# Altium integrated library Xilinx Spartan-IIE.IntLib: 136 symbols (part 3 of 23)
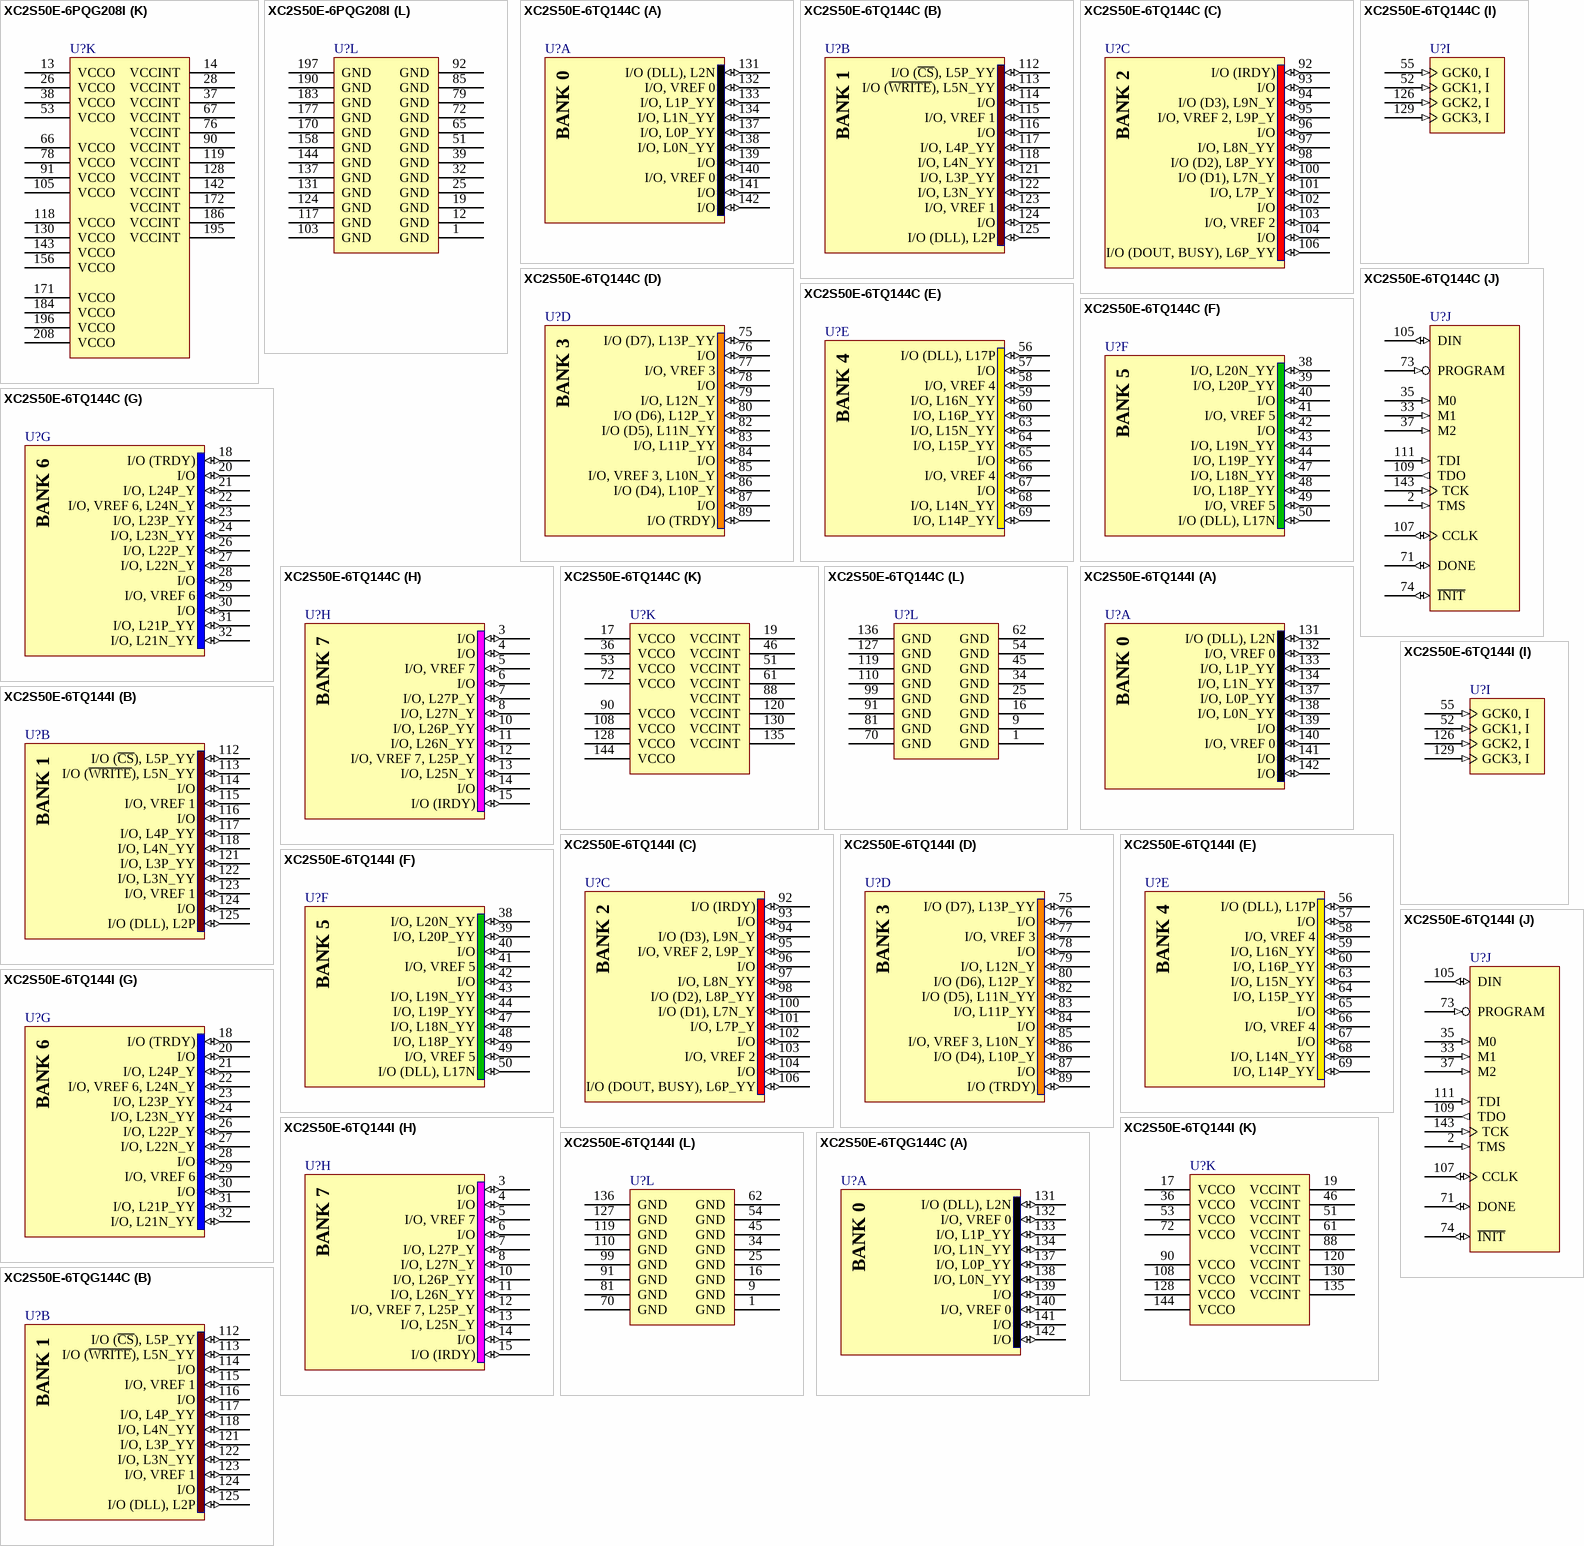
[diagram p130: symbols XC2S50E-6PQG208I to XC2S50E-6TQG144C]

## XC2S50E-6PQG208I
designator U?
Spartan-IIE 1.8V FPGA, 146 User I/Os, 208-Pin PQFP, Standard Performance, Industrial Grade, Pb-Free; DatasheetVersion: ver2.3, Jun-2008; PackageVersion: ver1.2, Jun-2004; PackageReference: PQG208; PackageDescription: 208-Pin Plastic Quad Flat Pack (PQG208) - Pb-Free; Code_JEDEC: MS-029-FA-1; ComponentLink1Description: Manufacturer URL; ComponentLink1URL: http://www.xilinx.com/; ComponentLink2Description: Spartan-IIE Datasheet; ComponentLink2URL: http://www.xilinx.com/support/documentation/data_sheets/ds077.pdf; ComponentLink3Description: PQG208 Package Drawing; ComponentLink3URL: http://www.xilinx.com/support/documentation/package_specs/pq208.pdf; ComponentLink4Description: Spartan-IIE Documents; ComponentLink4URL: http://www.xilinx.com/support/documentation/spartan-iie.htm
footprint PQG208_N (Shrink QFP, 208-Leads, Body 28x28mm, Pitch 0.5mm, IPC Medium Density)
footprint PQG208_L (Shrink QFP, 208-Leads, Body 28x28mm, Pitch 0.5mm, IPC High Density)
footprint PQG208_M (Shrink QFP, 208-Leads, Body 28x28mm, Pitch 0.5mm, IPC Low Density)
part A pins: 187 I/O (DLL), L5N (io), 188 I/O, L4P_Y (io), 189 I/O, VREF 0, L4N_Y (io), 191 I/O, L3P_Y (io), 192 I/O, L3N_Y (io), 193 I/O, L2P_Y (io), 194 I/O, L2N_Y (io), 198 I/O, L1P_Y (io), 199 I/O, L1N_Y (io), 200 I/O (io), 201 I/O (io), 202 I/O, L0P_YY (io), 203 I/O, VREF 0, L0N_YY (io), 204 I/O (io), 205 I/O (io), 206 I/O (io)
part B pins: 160 I/O (~{CS}), L11P_YY (io), 161 I/O (~{WRITE}), L11N_YY (io), 162 I/O (io), 163 I/O (io), 164 I/O, VREF 1, L10P_YY (io), 165 I/O, L10N_YY (io), 166 I/O (io), 167 I/O (io), 168 I/O, L9P_Y (io), 169 I/O, L9N_Y (io), 173 I/O, L8P_Y (io), 174 I/O, L8N_Y (io), 175 I/O, L7P_Y (io), 176 I/O, L7N_Y (io), 178 I/O, VREF 1, L6P_Y (io), 179 I/O, L6N_Y (io), 180 I/O (io), 181 I/O (DLL), L5P (io)
part C pins: 132 I/O (IRDY), L18N_YY (io), 133 I/O, L18P_YY (io), 134 I/O (io), 135 I/O (D3), L17N_Y (io), 136 I/O, VREF 2, L17P_Y (io), 138 I/O, L16N_YY (io), 139 I/O, L16P_YY (io), 140 I/O, L15N_YY (io), 141 I/O (D2), L15P_YY (io), 145 I/O (D1), L14N_Y (io), 146 I/O, L14P_Y (io), 147 I/O (io), 148 I/O (io), 149 I/O (io), 150 I/O, VREF 2, L13N (io), 151 I/O, L13P (io), 152 I/O (io), 154 I/O (DOUT, BUSY), L12P_YY (io)
part D pins: 108 I/O (D7), L24P_YY (io), 109 I/O (io), 110 I/O (io), 111 I/O, VREF 3, L23N_Y (io), 112 I/O, L23P_Y (io), 113 I/O (io), 114 I/O (io), 115 I/O, L22N_Y (io), 116 I/O (D6), L22P_Y (io), 120 I/O (D5), L21N_YY (io), 121 I/O, L21P_YY (io), 122 I/O, L20N_YY (io), 123 I/O, L20P_YY (io), 125 I/O, VREF 3, L19N_Y (io), 126 I/O (D4), L19P_Y (io), 127 I/O (io), 129 I/O (TRDY) (io)
part E pins: 81 I/O (DLL), L31P (io), 82 I/O (io), 83 I/O, L30N_Y (io), 84 I/O, VREF 4, L30P_Y (io), 86 I/O, L29N_Y (io), 87 I/O, L29P_Y (io), 88 I/O, L28N_Y (io), 89 I/O, L28P_Y (io), 93 I/O, L27N_Y (io), 94 I/O, L27P_Y (io), 95 I/O (io), 96 I/O (io), 97 I/O, L26N_YY (io), 98 I/O, VREF 4, L26P_YY (io), 99 I/O (io), 100 I/O (io), 101 I/O, L25N_YY (io), 102 I/O, L25P_YY (io)
part F pins: 55 I/O, L37N_YY (io), 56 I/O, L37P_YY (io), 57 I/O (io), 58 I/O (io), 59 I/O, VREF 5, L36N_YY (io), 60 I/O, L36P_YY (io), 61 I/O, L35N_Y (io), 62 I/O, L35P_Y (io), 63 I/O, L34N_Y (io), 64 I/O, L34P_Y (io), 68 I/O, L33N_Y (io), 69 I/O, L33P_Y (io), 70 I/O (io), 71 I/O, L32N (io), 73 I/O, VREF 5, L32P (io), 74 I/O (io), 75 I/O (DLL), L31N (io)
part G pins: 27 I/O (TRDY) (io), 29 I/O (io), 30 I/O, L43P_Y (io), 31 I/O, VREF 6, L43N_Y (io), 33 I/O, L42P_YY (io), 34 I/O, L42N_YY (io), 35 I/O, L41P_YY (io), 36 I/O, L41N_YY (io), 40 I/O, L40P_Y (io), 41 I/O, L40N_Y (io), 42 I/O (io), 43 I/O (io), 44 I/O (io), 45 I/O, VREF 6, L39P (io), 46 I/O, L39N (io), 47 I/O (io), 48 I/O, L38P_YY (io), 49 I/O, L38N_YY (io)
part H pins: 3 I/O (io), 4 I/O (io), 5 I/O (io), 6 I/O, VREF 7, L49P_Y (io), 7 I/O, L49N_Y (io), 8 I/O (io), 9 I/O (io), 10 I/O, L48P_Y (io), 11 I/O, L48N_Y (io), 15 I/O, L47P_YY (io), 16 I/O, L47N_YY (io), 17 I/O, L46P_YY (io), 18 I/O, L46N_YY (io), 20 I/O, VREF 7, L45P_Y (io), 21 I/O, L45N_Y (io), 22 I/O (io), 23 I/O, L44P_YY (io), 24 I/O (IRDY), L44N_YY (io)
part I pins: 77 GCK1, I (in), 80 GCK0, I (in), 182 GCK2, I (in), 185 GCK3, I (in)
part J pins: 2 TMS (in), 50 M1 (in), 52 M0 (in), 54 M2 (in), 104 DONE (io), 106 PROGRAM (in), 107 ~{INIT} (io) "I/O (I\N\I\T\), L24N_YY", 153 DIN (io) "I/O (DIN, D0), L12N_YY", 155 CCLK (io), 157 TDO (out), 159 TDI (in), 207 TCK (in)
part K pins: 13 VCCO (power), 14 VCCINT (power), 26 VCCO (power), 28 VCCINT (power), 37 VCCINT (power), 38 VCCO (power), 53 VCCO (power), 66 VCCO (power), 67 VCCINT (power), 76 VCCINT (power), 78 VCCO (power), 90 VCCINT (power), 91 VCCO (power), 105 VCCO (power), 118 VCCO (power), 119 VCCINT (power), 128 VCCINT (power), 130 VCCO (power), 142 VCCINT (power), 143 VCCO (power), 156 VCCO (power), 171 VCCO (power), 172 VCCINT (power), 184 VCCO (power), 186 VCCINT (power), 195 VCCINT (power), 196 VCCO (power), 208 VCCO (power)
part L pins: 1 GND (power), 12 GND (power), 19 GND (power), 25 GND (power), 32 GND (power), 39 GND (power), 51 GND (power), 65 GND (power), 72 GND (power), 79 GND (power), 85 GND (power), 92 GND (power), 103 GND (power), 117 GND (power), 124 GND (power), 131 GND (power), 137 GND (power), 144 GND (power), 158 GND (power), 170 GND (power), 177 GND (power), 183 GND (power), 190 GND (power), 197 GND (power)
part A text: BANK 0
part B text: BANK 1
part C text: BANK 2
part D text: BANK 3
part E text: BANK 4
part F text: BANK 5
part G text: BANK 6
part H text: BANK 7

## XC2S50E-6TQ144C
designator U?
Spartan-IIE 1.8V FPGA, 102 User I/Os, 144-Pin TQFP, Standard Performance, Commercial Grade; DatasheetVersion: ver2.3, Jun-2008; PackageVersion: ver1.2, Jun-2004; PackageReference: TQ144; PackageDescription: 144-Pin Thin Quad Flat Pack (TQ144); Code_JEDEC: MS-026-BFB; ComponentLink1Description: Manufacturer URL; ComponentLink1URL: http://www.xilinx.com/; ComponentLink2Description: Spartan-IIE Datasheet; ComponentLink2URL: http://www.xilinx.com/support/documentation/data_sheets/ds077.pdf; ComponentLink3Description: TQ144 Package Drawing; ComponentLink3URL: http://www.xilinx.com/support/documentation/package_specs/tq144.pdf; ComponentLink4Description: Spartan-IIE Documents; ComponentLink4URL: http://www.xilinx.com/support/documentation/spartan-iie.htm
footprint TQ144_N (Thin QFP, 144-Leads, Body 20x20mm, Pitch 0.5mm, IPC Medium Density)
footprint TQ144_L (Thin QFP, 144-Leads, Body 20x20mm, Pitch 0.5mm, IPC High Density)
footprint TQ144_M (Thin QFP, 144-Leads, Body 20x20mm, Pitch 0.5mm, IPC Low Density)
part A pins: 131 I/O (DLL), L2N (io), 132 I/O, VREF 0 (io), 133 I/O, L1P_YY (io), 134 I/O, L1N_YY (io), 137 I/O, L0P_YY (io), 138 I/O, L0N_YY (io), 139 I/O (io), 140 I/O, VREF 0 (io), 141 I/O (io), 142 I/O (io)
part B pins: 112 I/O (~{CS}), L5P_YY (io), 113 I/O (~{WRITE}), L5N_YY (io), 114 I/O (io), 115 I/O, VREF 1 (io), 116 I/O (io), 117 I/O, L4P_YY (io), 118 I/O, L4N_YY (io), 121 I/O, L3P_YY (io), 122 I/O, L3N_YY (io), 123 I/O, VREF 1 (io), 124 I/O (io), 125 I/O (DLL), L2P (io)
part C pins: 92 I/O (IRDY) (io), 93 I/O (io), 94 I/O (D3), L9N_Y (io), 95 I/O, VREF 2, L9P_Y (io), 96 I/O (io), 97 I/O, L8N_YY (io), 98 I/O (D2), L8P_YY (io), 100 I/O (D1), L7N_Y (io), 101 I/O, L7P_Y (io), 102 I/O (io), 103 I/O, VREF 2 (io), 104 I/O (io), 106 I/O (DOUT, BUSY), L6P_YY (io)
part D pins: 75 I/O (D7), L13P_YY (io), 76 I/O (io), 77 I/O, VREF 3 (io), 78 I/O (io), 79 I/O, L12N_Y (io), 80 I/O (D6), L12P_Y (io), 82 I/O (D5), L11N_YY (io), 83 I/O, L11P_YY (io), 84 I/O (io), 85 I/O, VREF 3, L10N_Y (io), 86 I/O (D4), L10P_Y (io), 87 I/O (io), 89 I/O (TRDY) (io)
part E pins: 56 I/O (DLL), L17P (io), 57 I/O (io), 58 I/O, VREF 4 (io), 59 I/O, L16N_YY (io), 60 I/O, L16P_YY (io), 63 I/O, L15N_YY (io), 64 I/O, L15P_YY (io), 65 I/O (io), 66 I/O, VREF 4 (io), 67 I/O (io), 68 I/O, L14N_YY (io), 69 I/O, L14P_YY (io)
part F pins: 38 I/O, L20N_YY (io), 39 I/O, L20P_YY (io), 40 I/O (io), 41 I/O, VREF 5 (io), 42 I/O (io), 43 I/O, L19N_YY (io), 44 I/O, L19P_YY (io), 47 I/O, L18N_YY (io), 48 I/O, L18P_YY (io), 49 I/O, VREF 5 (io), 50 I/O (DLL), L17N (io)
part G pins: 18 I/O (TRDY) (io), 20 I/O (io), 21 I/O, L24P_Y (io), 22 I/O, VREF 6, L24N_Y (io), 23 I/O, L23P_YY (io), 24 I/O, L23N_YY (io), 26 I/O, L22P_Y (io), 27 I/O, L22N_Y (io), 28 I/O (io), 29 I/O, VREF 6 (io), 30 I/O (io), 31 I/O, L21P_YY (io), 32 I/O, L21N_YY (io)
part H pins: 3 I/O (io), 4 I/O (io), 5 I/O, VREF 7 (io), 6 I/O (io), 7 I/O, L27P_Y (io), 8 I/O, L27N_Y (io), 10 I/O, L26P_YY (io), 11 I/O, L26N_YY (io), 12 I/O, VREF 7, L25P_Y (io), 13 I/O, L25N_Y (io), 14 I/O (io), 15 I/O (IRDY) (io)
part I pins: 52 GCK1, I (in), 55 GCK0, I (in), 126 GCK2, I (in), 129 GCK3, I (in)
part J pins: 2 TMS (in), 33 M1 (in), 35 M0 (in), 37 M2 (in), 71 DONE (io), 73 PROGRAM (in), 74 ~{INIT} (io) "I/O (I\N\I\T\), L13N_YY", 105 DIN (io) "I/O (DIN, D0), L6N_YY", 107 CCLK (io), 109 TDO (out), 111 TDI (in), 143 TCK (in)
part K pins: 17 VCCO (power), 19 VCCINT (power), 36 VCCO (power), 46 VCCINT (power), 51 VCCINT (power), 53 VCCO (power), 61 VCCINT (power), 72 VCCO (power), 88 VCCINT (power), 90 VCCO (power), 108 VCCO (power), 120 VCCINT (power), 128 VCCO (power), 130 VCCINT (power), 135 VCCINT (power), 144 VCCO (power)
part L pins: 1 GND (power), 9 GND (power), 16 GND (power), 25 GND (power), 34 GND (power), 45 GND (power), 54 GND (power), 62 GND (power), 70 GND (power), 81 GND (power), 91 GND (power), 99 GND (power), 110 GND (power), 119 GND (power), 127 GND (power), 136 GND (power)
part A text: BANK 0
part B text: BANK 1
part C text: BANK 2
part D text: BANK 3
part E text: BANK 4
part F text: BANK 5
part G text: BANK 6
part H text: BANK 7

## XC2S50E-6TQ144I
designator U?
Spartan-IIE 1.8V FPGA, 102 User I/Os, 144-Pin TQFP, Standard Performance, Industrial Grade; DatasheetVersion: ver2.3, Jun-2008; PackageVersion: ver1.2, Jun-2004; PackageReference: TQ144; PackageDescription: 144-Pin Thin Quad Flat Pack (TQ144); Code_JEDEC: MS-026-BFB; ComponentLink1Description: Manufacturer URL; ComponentLink1URL: http://www.xilinx.com/; ComponentLink2Description: Spartan-IIE Datasheet; ComponentLink2URL: http://www.xilinx.com/support/documentation/data_sheets/ds077.pdf; ComponentLink3Description: TQ144 Package Drawing; ComponentLink3URL: http://www.xilinx.com/support/documentation/package_specs/tq144.pdf; ComponentLink4Description: Spartan-IIE Documents; ComponentLink4URL: http://www.xilinx.com/support/documentation/spartan-iie.htm
footprint TQ144_N (Thin QFP, 144-Leads, Body 20x20mm, Pitch 0.5mm, IPC Medium Density)
footprint TQ144_L (Thin QFP, 144-Leads, Body 20x20mm, Pitch 0.5mm, IPC High Density)
footprint TQ144_M (Thin QFP, 144-Leads, Body 20x20mm, Pitch 0.5mm, IPC Low Density)
part A pins: 131 I/O (DLL), L2N (io), 132 I/O, VREF 0 (io), 133 I/O, L1P_YY (io), 134 I/O, L1N_YY (io), 137 I/O, L0P_YY (io), 138 I/O, L0N_YY (io), 139 I/O (io), 140 I/O, VREF 0 (io), 141 I/O (io), 142 I/O (io)
part B pins: 112 I/O (~{CS}), L5P_YY (io), 113 I/O (~{WRITE}), L5N_YY (io), 114 I/O (io), 115 I/O, VREF 1 (io), 116 I/O (io), 117 I/O, L4P_YY (io), 118 I/O, L4N_YY (io), 121 I/O, L3P_YY (io), 122 I/O, L3N_YY (io), 123 I/O, VREF 1 (io), 124 I/O (io), 125 I/O (DLL), L2P (io)
part C pins: 92 I/O (IRDY) (io), 93 I/O (io), 94 I/O (D3), L9N_Y (io), 95 I/O, VREF 2, L9P_Y (io), 96 I/O (io), 97 I/O, L8N_YY (io), 98 I/O (D2), L8P_YY (io), 100 I/O (D1), L7N_Y (io), 101 I/O, L7P_Y (io), 102 I/O (io), 103 I/O, VREF 2 (io), 104 I/O (io), 106 I/O (DOUT, BUSY), L6P_YY (io)
part D pins: 75 I/O (D7), L13P_YY (io), 76 I/O (io), 77 I/O, VREF 3 (io), 78 I/O (io), 79 I/O, L12N_Y (io), 80 I/O (D6), L12P_Y (io), 82 I/O (D5), L11N_YY (io), 83 I/O, L11P_YY (io), 84 I/O (io), 85 I/O, VREF 3, L10N_Y (io), 86 I/O (D4), L10P_Y (io), 87 I/O (io), 89 I/O (TRDY) (io)
part E pins: 56 I/O (DLL), L17P (io), 57 I/O (io), 58 I/O, VREF 4 (io), 59 I/O, L16N_YY (io), 60 I/O, L16P_YY (io), 63 I/O, L15N_YY (io), 64 I/O, L15P_YY (io), 65 I/O (io), 66 I/O, VREF 4 (io), 67 I/O (io), 68 I/O, L14N_YY (io), 69 I/O, L14P_YY (io)
part F pins: 38 I/O, L20N_YY (io), 39 I/O, L20P_YY (io), 40 I/O (io), 41 I/O, VREF 5 (io), 42 I/O (io), 43 I/O, L19N_YY (io), 44 I/O, L19P_YY (io), 47 I/O, L18N_YY (io), 48 I/O, L18P_YY (io), 49 I/O, VREF 5 (io), 50 I/O (DLL), L17N (io)
part G pins: 18 I/O (TRDY) (io), 20 I/O (io), 21 I/O, L24P_Y (io), 22 I/O, VREF 6, L24N_Y (io), 23 I/O, L23P_YY (io), 24 I/O, L23N_YY (io), 26 I/O, L22P_Y (io), 27 I/O, L22N_Y (io), 28 I/O (io), 29 I/O, VREF 6 (io), 30 I/O (io), 31 I/O, L21P_YY (io), 32 I/O, L21N_YY (io)
part H pins: 3 I/O (io), 4 I/O (io), 5 I/O, VREF 7 (io), 6 I/O (io), 7 I/O, L27P_Y (io), 8 I/O, L27N_Y (io), 10 I/O, L26P_YY (io), 11 I/O, L26N_YY (io), 12 I/O, VREF 7, L25P_Y (io), 13 I/O, L25N_Y (io), 14 I/O (io), 15 I/O (IRDY) (io)
part I pins: 52 GCK1, I (in), 55 GCK0, I (in), 126 GCK2, I (in), 129 GCK3, I (in)
part J pins: 2 TMS (in), 33 M1 (in), 35 M0 (in), 37 M2 (in), 71 DONE (io), 73 PROGRAM (in), 74 ~{INIT} (io) "I/O (I\N\I\T\), L13N_YY", 105 DIN (io) "I/O (DIN, D0), L6N_YY", 107 CCLK (io), 109 TDO (out), 111 TDI (in), 143 TCK (in)
part K pins: 17 VCCO (power), 19 VCCINT (power), 36 VCCO (power), 46 VCCINT (power), 51 VCCINT (power), 53 VCCO (power), 61 VCCINT (power), 72 VCCO (power), 88 VCCINT (power), 90 VCCO (power), 108 VCCO (power), 120 VCCINT (power), 128 VCCO (power), 130 VCCINT (power), 135 VCCINT (power), 144 VCCO (power)
part L pins: 1 GND (power), 9 GND (power), 16 GND (power), 25 GND (power), 34 GND (power), 45 GND (power), 54 GND (power), 62 GND (power), 70 GND (power), 81 GND (power), 91 GND (power), 99 GND (power), 110 GND (power), 119 GND (power), 127 GND (power), 136 GND (power)
part A text: BANK 0
part B text: BANK 1
part C text: BANK 2
part D text: BANK 3
part E text: BANK 4
part F text: BANK 5
part G text: BANK 6
part H text: BANK 7

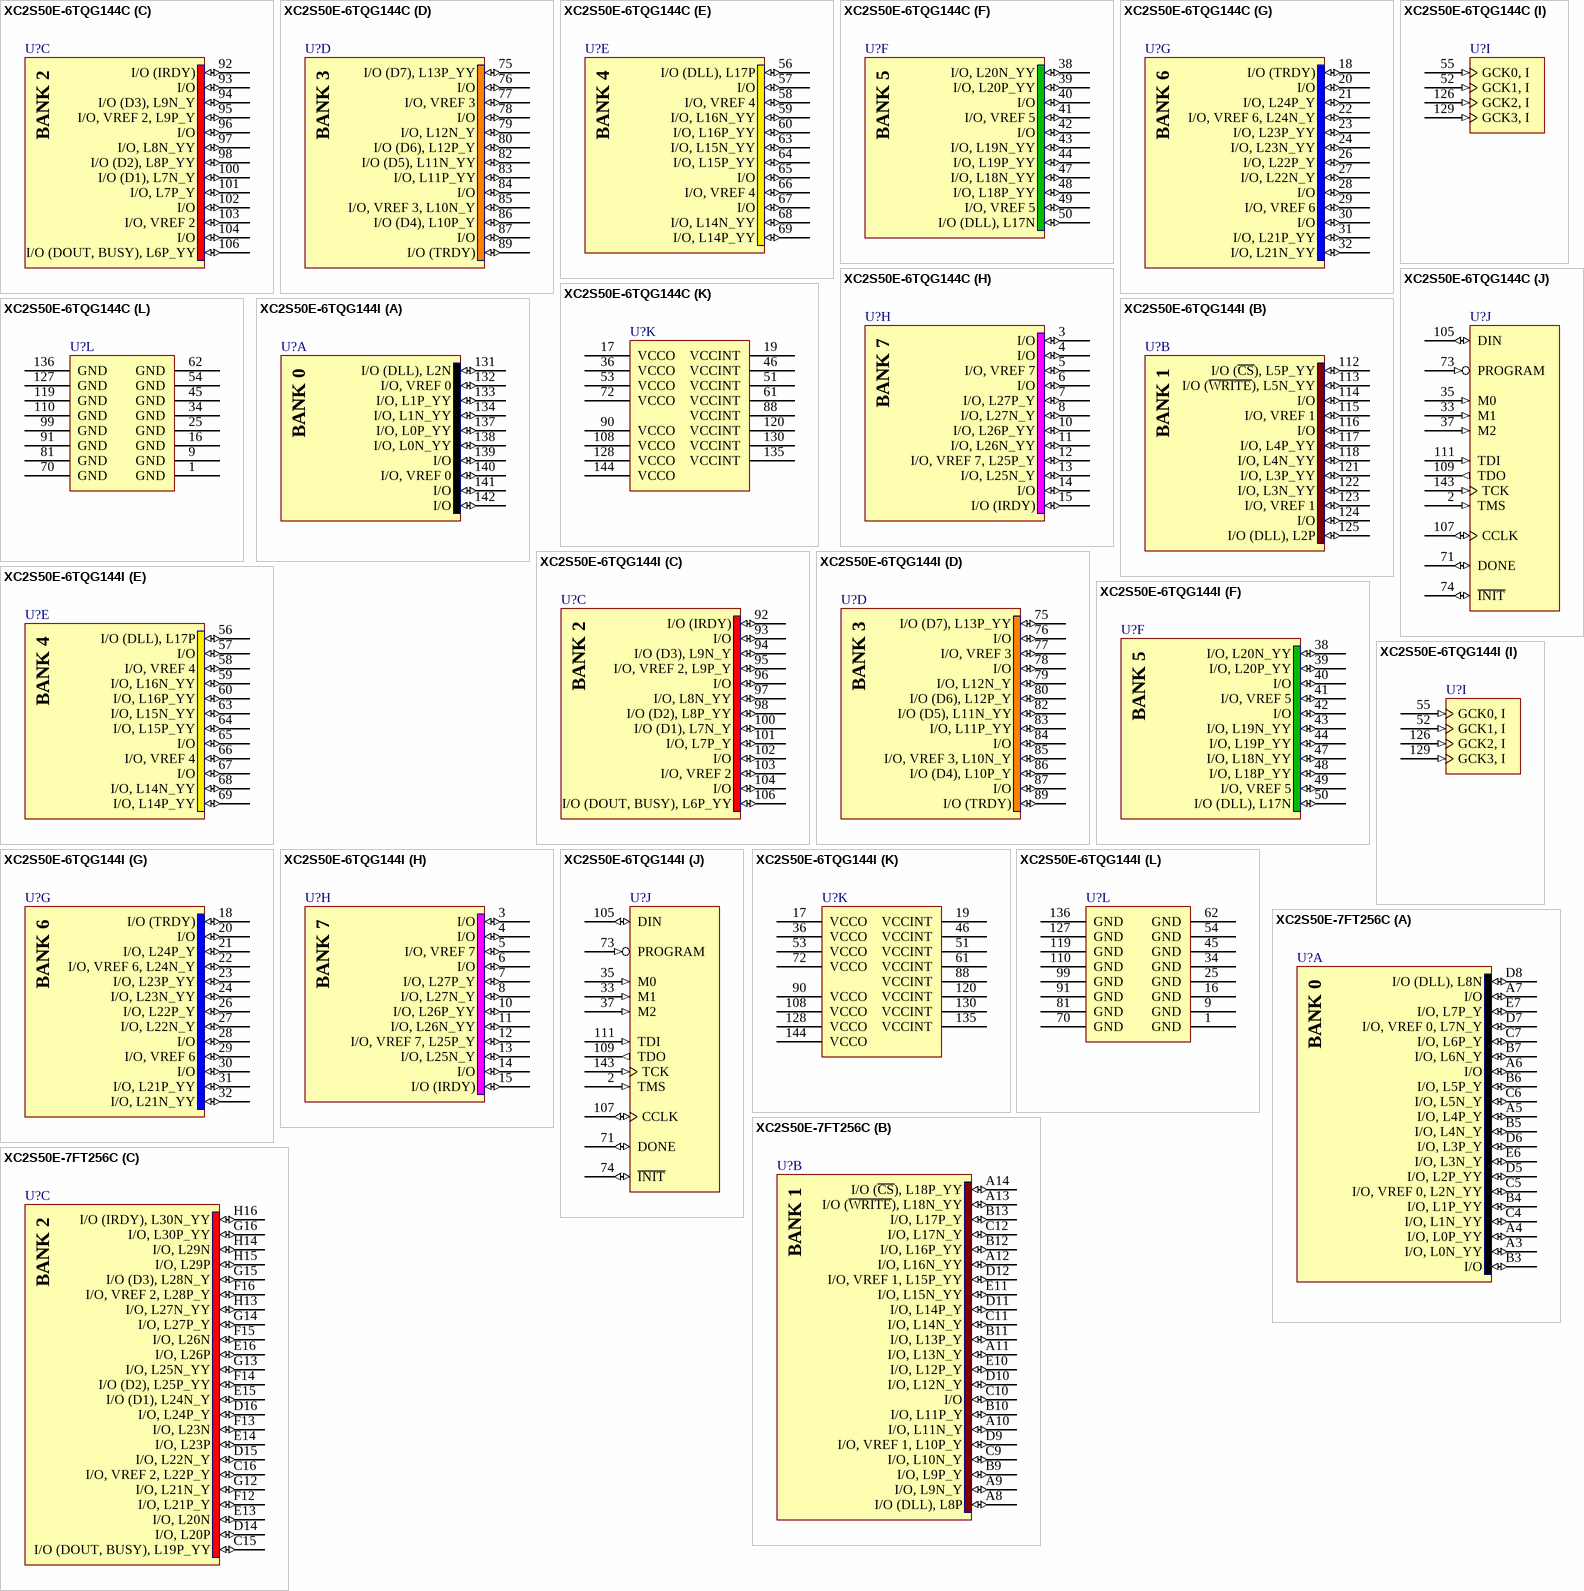
[diagram p13: symbols XC2S50E-6TQG144C to XC2S50E-7FT256C]

## XC2S50E-6TQG144C
designator U?
Spartan-IIE 1.8V FPGA, 102 User I/Os, 144-Pin TQFP, Standard Performance, Commercial Grade, Pb-Free; DatasheetVersion: ver2.3, Jun-2008; PackageVersion: ver1.2, Jun-2004; PackageReference: TQG144; PackageDescription: 144-Pin Thin Quad Flat Pack (TQG144) - Pb-Free; Code_JEDEC: MS-026-BFB; ComponentLink1Description: Manufacturer URL; ComponentLink1URL: http://www.xilinx.com/; ComponentLink2Description: Spartan-IIE Datasheet; ComponentLink2URL: http://www.xilinx.com/support/documentation/data_sheets/ds077.pdf; ComponentLink3Description: TQG144 Package Drawing; ComponentLink3URL: http://www.xilinx.com/support/documentation/package_specs/tq144.pdf; ComponentLink4Description: Spartan-IIE Documents; ComponentLink4URL: http://www.xilinx.com/support/documentation/spartan-iie.htm
footprint TQG144_N (Thin QFP, 144-Leads, Body 20x20mm, Pitch 0.5mm, IPC Medium Density)
footprint TQG144_L (Thin QFP, 144-Leads, Body 20x20mm, Pitch 0.5mm, IPC High Density)
footprint TQG144_M (Thin QFP, 144-Leads, Body 20x20mm, Pitch 0.5mm, IPC Low Density)
part A pins: 131 I/O (DLL), L2N (io), 132 I/O, VREF 0 (io), 133 I/O, L1P_YY (io), 134 I/O, L1N_YY (io), 137 I/O, L0P_YY (io), 138 I/O, L0N_YY (io), 139 I/O (io), 140 I/O, VREF 0 (io), 141 I/O (io), 142 I/O (io)
part B pins: 112 I/O (~{CS}), L5P_YY (io), 113 I/O (~{WRITE}), L5N_YY (io), 114 I/O (io), 115 I/O, VREF 1 (io), 116 I/O (io), 117 I/O, L4P_YY (io), 118 I/O, L4N_YY (io), 121 I/O, L3P_YY (io), 122 I/O, L3N_YY (io), 123 I/O, VREF 1 (io), 124 I/O (io), 125 I/O (DLL), L2P (io)
part C pins: 92 I/O (IRDY) (io), 93 I/O (io), 94 I/O (D3), L9N_Y (io), 95 I/O, VREF 2, L9P_Y (io), 96 I/O (io), 97 I/O, L8N_YY (io), 98 I/O (D2), L8P_YY (io), 100 I/O (D1), L7N_Y (io), 101 I/O, L7P_Y (io), 102 I/O (io), 103 I/O, VREF 2 (io), 104 I/O (io), 106 I/O (DOUT, BUSY), L6P_YY (io)
part D pins: 75 I/O (D7), L13P_YY (io), 76 I/O (io), 77 I/O, VREF 3 (io), 78 I/O (io), 79 I/O, L12N_Y (io), 80 I/O (D6), L12P_Y (io), 82 I/O (D5), L11N_YY (io), 83 I/O, L11P_YY (io), 84 I/O (io), 85 I/O, VREF 3, L10N_Y (io), 86 I/O (D4), L10P_Y (io), 87 I/O (io), 89 I/O (TRDY) (io)
part E pins: 56 I/O (DLL), L17P (io), 57 I/O (io), 58 I/O, VREF 4 (io), 59 I/O, L16N_YY (io), 60 I/O, L16P_YY (io), 63 I/O, L15N_YY (io), 64 I/O, L15P_YY (io), 65 I/O (io), 66 I/O, VREF 4 (io), 67 I/O (io), 68 I/O, L14N_YY (io), 69 I/O, L14P_YY (io)
part F pins: 38 I/O, L20N_YY (io), 39 I/O, L20P_YY (io), 40 I/O (io), 41 I/O, VREF 5 (io), 42 I/O (io), 43 I/O, L19N_YY (io), 44 I/O, L19P_YY (io), 47 I/O, L18N_YY (io), 48 I/O, L18P_YY (io), 49 I/O, VREF 5 (io), 50 I/O (DLL), L17N (io)
part G pins: 18 I/O (TRDY) (io), 20 I/O (io), 21 I/O, L24P_Y (io), 22 I/O, VREF 6, L24N_Y (io), 23 I/O, L23P_YY (io), 24 I/O, L23N_YY (io), 26 I/O, L22P_Y (io), 27 I/O, L22N_Y (io), 28 I/O (io), 29 I/O, VREF 6 (io), 30 I/O (io), 31 I/O, L21P_YY (io), 32 I/O, L21N_YY (io)
part H pins: 3 I/O (io), 4 I/O (io), 5 I/O, VREF 7 (io), 6 I/O (io), 7 I/O, L27P_Y (io), 8 I/O, L27N_Y (io), 10 I/O, L26P_YY (io), 11 I/O, L26N_YY (io), 12 I/O, VREF 7, L25P_Y (io), 13 I/O, L25N_Y (io), 14 I/O (io), 15 I/O (IRDY) (io)
part I pins: 52 GCK1, I (in), 55 GCK0, I (in), 126 GCK2, I (in), 129 GCK3, I (in)
part J pins: 2 TMS (in), 33 M1 (in), 35 M0 (in), 37 M2 (in), 71 DONE (io), 73 PROGRAM (in), 74 ~{INIT} (io) "I/O (I\N\I\T\), L13N_YY", 105 DIN (io) "I/O (DIN, D0), L6N_YY", 107 CCLK (io), 109 TDO (out), 111 TDI (in), 143 TCK (in)
part K pins: 17 VCCO (power), 19 VCCINT (power), 36 VCCO (power), 46 VCCINT (power), 51 VCCINT (power), 53 VCCO (power), 61 VCCINT (power), 72 VCCO (power), 88 VCCINT (power), 90 VCCO (power), 108 VCCO (power), 120 VCCINT (power), 128 VCCO (power), 130 VCCINT (power), 135 VCCINT (power), 144 VCCO (power)
part L pins: 1 GND (power), 9 GND (power), 16 GND (power), 25 GND (power), 34 GND (power), 45 GND (power), 54 GND (power), 62 GND (power), 70 GND (power), 81 GND (power), 91 GND (power), 99 GND (power), 110 GND (power), 119 GND (power), 127 GND (power), 136 GND (power)
part A text: BANK 0
part B text: BANK 1
part C text: BANK 2
part D text: BANK 3
part E text: BANK 4
part F text: BANK 5
part G text: BANK 6
part H text: BANK 7

## XC2S50E-6TQG144I
designator U?
Spartan-IIE 1.8V FPGA, 102 User I/Os, 144-Pin TQFP, Standard Performance, Industrial Grade, Pb-Free; DatasheetVersion: ver2.3, Jun-2008; PackageVersion: ver1.2, Jun-2004; PackageReference: TQG144; PackageDescription: 144-Pin Thin Quad Flat Pack (TQG144) - Pb-Free; Code_JEDEC: MS-026-BFB; ComponentLink1Description: Manufacturer URL; ComponentLink1URL: http://www.xilinx.com/; ComponentLink2Description: Spartan-IIE Datasheet; ComponentLink2URL: http://www.xilinx.com/support/documentation/data_sheets/ds077.pdf; ComponentLink3Description: TQG144 Package Drawing; ComponentLink3URL: http://www.xilinx.com/support/documentation/package_specs/tq144.pdf; ComponentLink4Description: Spartan-IIE Documents; ComponentLink4URL: http://www.xilinx.com/support/documentation/spartan-iie.htm
footprint TQG144_N (Thin QFP, 144-Leads, Body 20x20mm, Pitch 0.5mm, IPC Medium Density)
footprint TQG144_L (Thin QFP, 144-Leads, Body 20x20mm, Pitch 0.5mm, IPC High Density)
footprint TQG144_M (Thin QFP, 144-Leads, Body 20x20mm, Pitch 0.5mm, IPC Low Density)
part A pins: 131 I/O (DLL), L2N (io), 132 I/O, VREF 0 (io), 133 I/O, L1P_YY (io), 134 I/O, L1N_YY (io), 137 I/O, L0P_YY (io), 138 I/O, L0N_YY (io), 139 I/O (io), 140 I/O, VREF 0 (io), 141 I/O (io), 142 I/O (io)
part B pins: 112 I/O (~{CS}), L5P_YY (io), 113 I/O (~{WRITE}), L5N_YY (io), 114 I/O (io), 115 I/O, VREF 1 (io), 116 I/O (io), 117 I/O, L4P_YY (io), 118 I/O, L4N_YY (io), 121 I/O, L3P_YY (io), 122 I/O, L3N_YY (io), 123 I/O, VREF 1 (io), 124 I/O (io), 125 I/O (DLL), L2P (io)
part C pins: 92 I/O (IRDY) (io), 93 I/O (io), 94 I/O (D3), L9N_Y (io), 95 I/O, VREF 2, L9P_Y (io), 96 I/O (io), 97 I/O, L8N_YY (io), 98 I/O (D2), L8P_YY (io), 100 I/O (D1), L7N_Y (io), 101 I/O, L7P_Y (io), 102 I/O (io), 103 I/O, VREF 2 (io), 104 I/O (io), 106 I/O (DOUT, BUSY), L6P_YY (io)
part D pins: 75 I/O (D7), L13P_YY (io), 76 I/O (io), 77 I/O, VREF 3 (io), 78 I/O (io), 79 I/O, L12N_Y (io), 80 I/O (D6), L12P_Y (io), 82 I/O (D5), L11N_YY (io), 83 I/O, L11P_YY (io), 84 I/O (io), 85 I/O, VREF 3, L10N_Y (io), 86 I/O (D4), L10P_Y (io), 87 I/O (io), 89 I/O (TRDY) (io)
part E pins: 56 I/O (DLL), L17P (io), 57 I/O (io), 58 I/O, VREF 4 (io), 59 I/O, L16N_YY (io), 60 I/O, L16P_YY (io), 63 I/O, L15N_YY (io), 64 I/O, L15P_YY (io), 65 I/O (io), 66 I/O, VREF 4 (io), 67 I/O (io), 68 I/O, L14N_YY (io), 69 I/O, L14P_YY (io)
part F pins: 38 I/O, L20N_YY (io), 39 I/O, L20P_YY (io), 40 I/O (io), 41 I/O, VREF 5 (io), 42 I/O (io), 43 I/O, L19N_YY (io), 44 I/O, L19P_YY (io), 47 I/O, L18N_YY (io), 48 I/O, L18P_YY (io), 49 I/O, VREF 5 (io), 50 I/O (DLL), L17N (io)
part G pins: 18 I/O (TRDY) (io), 20 I/O (io), 21 I/O, L24P_Y (io), 22 I/O, VREF 6, L24N_Y (io), 23 I/O, L23P_YY (io), 24 I/O, L23N_YY (io), 26 I/O, L22P_Y (io), 27 I/O, L22N_Y (io), 28 I/O (io), 29 I/O, VREF 6 (io), 30 I/O (io), 31 I/O, L21P_YY (io), 32 I/O, L21N_YY (io)
part H pins: 3 I/O (io), 4 I/O (io), 5 I/O, VREF 7 (io), 6 I/O (io), 7 I/O, L27P_Y (io), 8 I/O, L27N_Y (io), 10 I/O, L26P_YY (io), 11 I/O, L26N_YY (io), 12 I/O, VREF 7, L25P_Y (io), 13 I/O, L25N_Y (io), 14 I/O (io), 15 I/O (IRDY) (io)
part I pins: 52 GCK1, I (in), 55 GCK0, I (in), 126 GCK2, I (in), 129 GCK3, I (in)
part J pins: 2 TMS (in), 33 M1 (in), 35 M0 (in), 37 M2 (in), 71 DONE (io), 73 PROGRAM (in), 74 ~{INIT} (io) "I/O (I\N\I\T\), L13N_YY", 105 DIN (io) "I/O (DIN, D0), L6N_YY", 107 CCLK (io), 109 TDO (out), 111 TDI (in), 143 TCK (in)
part K pins: 17 VCCO (power), 19 VCCINT (power), 36 VCCO (power), 46 VCCINT (power), 51 VCCINT (power), 53 VCCO (power), 61 VCCINT (power), 72 VCCO (power), 88 VCCINT (power), 90 VCCO (power), 108 VCCO (power), 120 VCCINT (power), 128 VCCO (power), 130 VCCINT (power), 135 VCCINT (power), 144 VCCO (power)
part L pins: 1 GND (power), 9 GND (power), 16 GND (power), 25 GND (power), 34 GND (power), 45 GND (power), 54 GND (power), 62 GND (power), 70 GND (power), 81 GND (power), 91 GND (power), 99 GND (power), 110 GND (power), 119 GND (power), 127 GND (power), 136 GND (power)
part A text: BANK 0
part B text: BANK 1
part C text: BANK 2
part D text: BANK 3
part E text: BANK 4
part F text: BANK 5
part G text: BANK 6
part H text: BANK 7

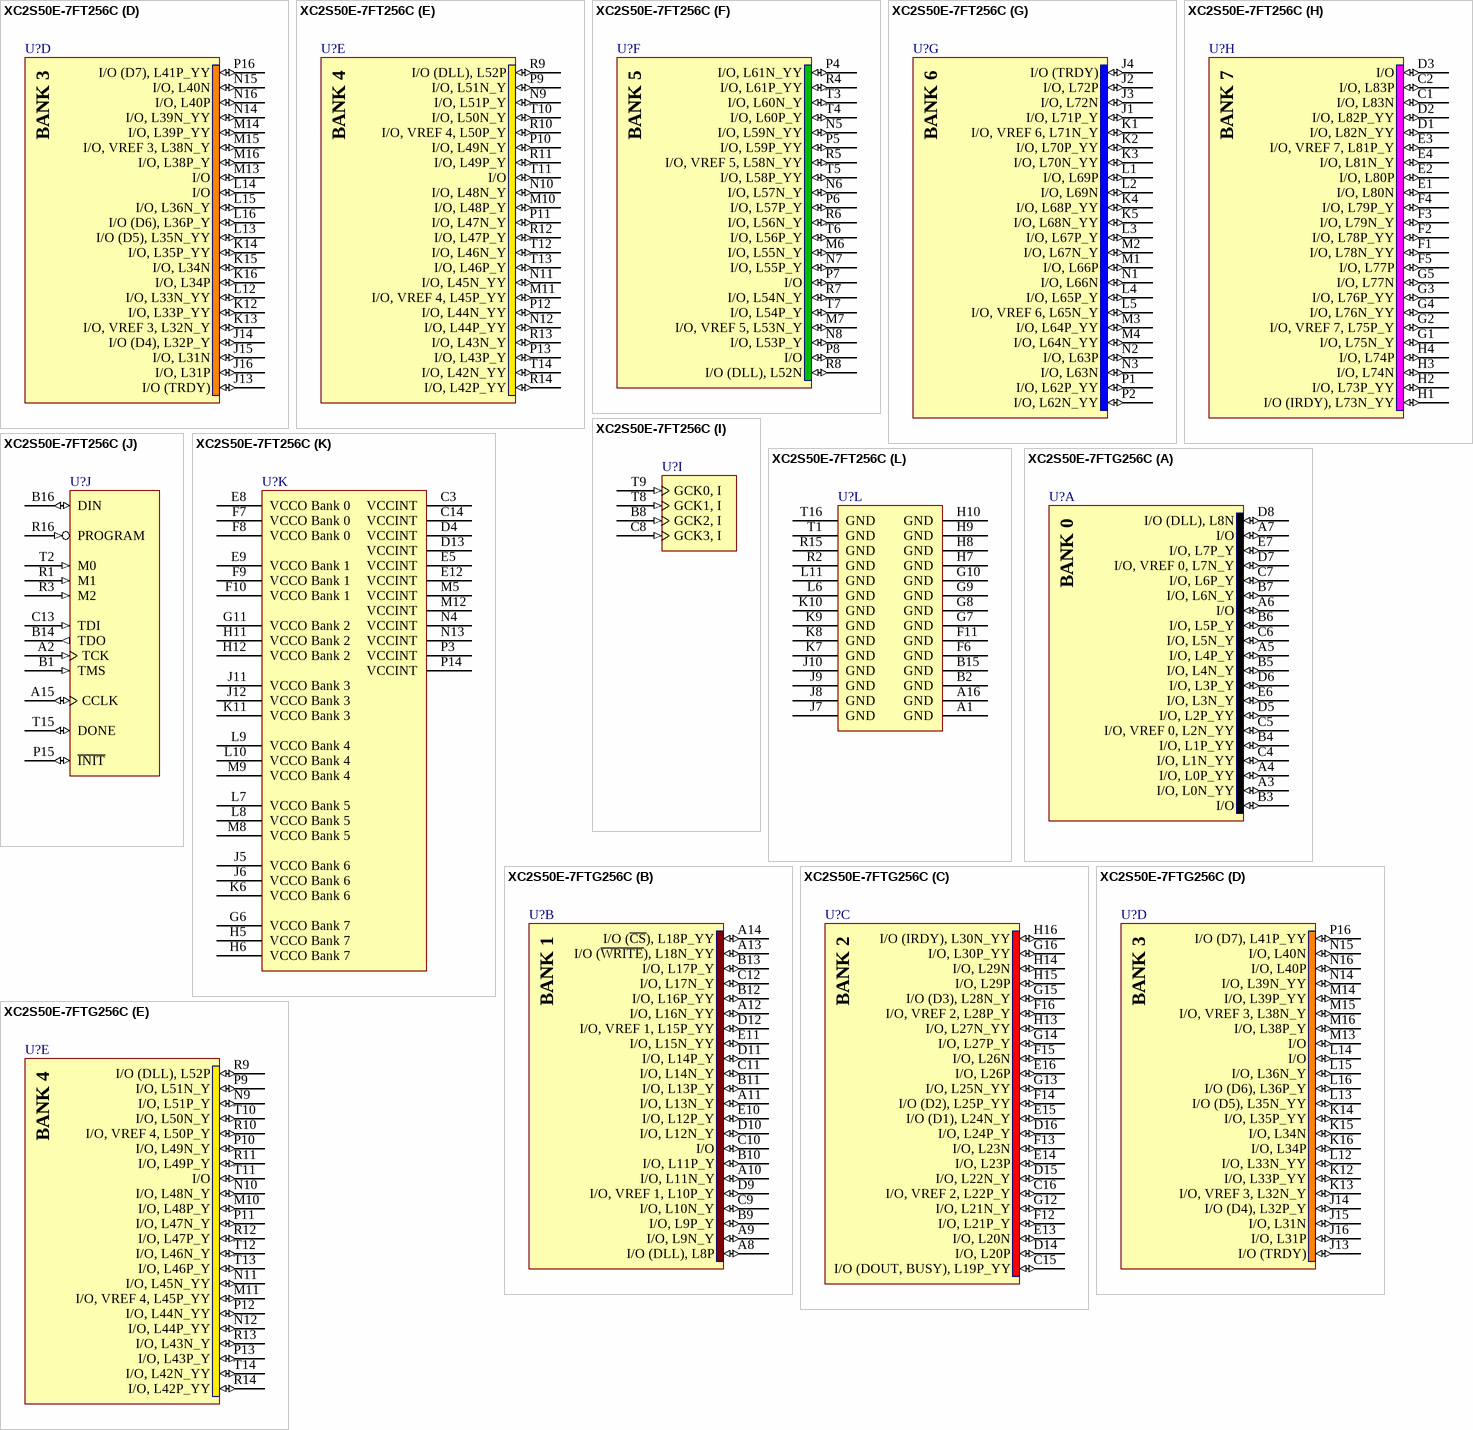
[diagram p14: symbols XC2S50E-7FT256C to XC2S50E-7FTG256C]

## XC2S50E-7FT256C
designator U?
Spartan-IIE 1.8V FPGA, 182 User I/Os, 256-Ball FTBGA, Higher Performance, Commercial Grade; DatasheetVersion: ver2.3, Jun-2008; PackageVersion: ver1.3, Oct-2007; PackageReference: FT256; PackageDescription: 256-Ball Fine Pitch Thin Ball Grid Array 1.00 mm Pitch (FT256); Code_JEDEC: MS-034-AAF-1*; ComponentLink1Description: Manufacturer URL; ComponentLink1URL: http://www.xilinx.com/; ComponentLink2Description: Spartan-IIE Datasheet; ComponentLink2URL: http://www.xilinx.com/support/documentation/data_sheets/ds077.pdf; ComponentLink3Description: FT256 Package Drawing; ComponentLink3URL: http://www.xilinx.com/support/documentation/package_specs/ft256.pdf; ComponentLink4Description: Spartan-IIE Documents; ComponentLink4URL: http://www.xilinx.com/support/documentation/spartan-iie.htm
footprint FT256 (BGA, 256-Leads, Body 17x17mm, Pitch 1mm)
part A pins: A3 I/O, L0N_YY (io), A4 I/O, L0P_YY (io), A5 I/O, L4P_Y (io), A6 I/O (io), A7 I/O (io), B3 I/O (io), B4 I/O, L1P_YY (io), B5 I/O, L4N_Y (io), B6 I/O, L5P_Y (io), B7 I/O, L6N_Y (io), C4 I/O, L1N_YY (io), C5 I/O, VREF 0, L2N_YY (io), C6 I/O, L5N_Y (io), C7 I/O, L6P_Y (io), D5 I/O, L2P_YY (io), D6 I/O, L3P_Y (io), D7 I/O, VREF 0, L7N_Y (io), D8 I/O (DLL), L8N (io), E6 I/O, L3N_Y (io), E7 I/O, L7P_Y (io)
part B pins: A8 I/O (DLL), L8P (io), A9 I/O, L9N_Y (io), A10 I/O, L11N_Y (io), A11 I/O, L13N_Y (io), A12 I/O, L16N_YY (io), A13 I/O (~{WRITE}), L18N_YY (io), A14 I/O (~{CS}), L18P_YY (io), B9 I/O, L9P_Y (io), B10 I/O, L11P_Y (io), B11 I/O, L13P_Y (io), B12 I/O, L16P_YY (io), B13 I/O, L17P_Y (io), C9 I/O, L10N_Y (io), C10 I/O (io), C11 I/O, L14N_Y (io), C12 I/O, L17N_Y (io), D9 I/O, VREF 1, L10P_Y (io), D10 I/O, L12N_Y (io), D11 I/O, L14P_Y (io), D12 I/O, VREF 1, L15P_YY (io), E10 I/O, L12P_Y (io), E11 I/O, L15N_YY (io)
part C pins: C15 I/O (DOUT, BUSY), L19P_YY (io), C16 I/O, VREF 2, L22P_Y (io), D14 I/O, L20P (io), D15 I/O, L22N_Y (io), D16 I/O, L24P_Y (io), E13 I/O, L20N (io), E14 I/O, L23P (io), E15 I/O (D1), L24N_Y (io), E16 I/O, L26P (io), F12 I/O, L21P_Y (io), F13 I/O, L23N (io), F14 I/O (D2), L25P_YY (io), F15 I/O, L26N (io), F16 I/O, VREF 2, L28P_Y (io), G12 I/O, L21N_Y (io), G13 I/O, L25N_YY (io), G14 I/O, L27P_Y (io), G15 I/O (D3), L28N_Y (io), G16 I/O, L30P_YY (io), H13 I/O, L27N_YY (io), H14 I/O, L29N (io), H15 I/O, L29P (io), H16 I/O (IRDY), L30N_YY (io)
part D pins: J13 I/O (TRDY) (io), J14 I/O (D4), L32P_Y (io), J15 I/O, L31N (io), J16 I/O, L31P (io), K12 I/O, L33P_YY (io), K13 I/O, VREF 3, L32N_Y (io), K14 I/O, L35P_YY (io), K15 I/O, L34N (io), K16 I/O, L34P (io), L12 I/O, L33N_YY (io), L13 I/O (D5), L35N_YY (io), L14 I/O (io), L15 I/O, L36N_Y (io), L16 I/O (D6), L36P_Y (io), M13 I/O (io), M14 I/O, L39P_YY (io), M15 I/O, VREF 3, L38N_Y (io), M16 I/O, L38P_Y (io), N14 I/O, L39N_YY (io), N15 I/O, L40N (io), N16 I/O, L40P (io), P16 I/O (D7), L41P_YY (io)
part E pins: M10 I/O, L48P_Y (io), M11 I/O, VREF 4, L45P_YY (io), N9 I/O, L51P_Y (io), N10 I/O, L48N_Y (io), N11 I/O, L45N_YY (io), N12 I/O, L44P_YY (io), P9 I/O, L51N_Y (io), P10 I/O, L49N_Y (io), P11 I/O, L47N_Y (io), P12 I/O, L44N_YY (io), P13 I/O, L43P_Y (io), R9 I/O (DLL), L52P (io), R10 I/O, VREF 4, L50P_Y (io), R11 I/O, L49P_Y (io), R12 I/O, L47P_Y (io), R13 I/O, L43N_Y (io), R14 I/O, L42P_YY (io), T10 I/O, L50N_Y (io), T11 I/O (io), T12 I/O, L46N_Y (io), T13 I/O, L46P_Y (io), T14 I/O, L42N_YY (io)
part F pins: M6 I/O, L55N_Y (io), M7 I/O, VREF 5, L53N_Y (io), N5 I/O, L59N_YY (io), N6 I/O, L57N_Y (io), N7 I/O, L55P_Y (io), N8 I/O, L53P_Y (io), P4 I/O, L61N_YY (io), P5 I/O, L59P_YY (io), P6 I/O, L57P_Y (io), P7 I/O (io), P8 I/O (io), R4 I/O, L61P_YY (io), R5 I/O, VREF 5, L58N_YY (io), R6 I/O, L56N_Y (io), R7 I/O, L54N_Y (io), R8 I/O (DLL), L52N (io), T3 I/O, L60N_Y (io), T4 I/O, L60P_Y (io), T5 I/O, L58P_YY (io), T6 I/O, L56P_Y (io), T7 I/O, L54P_Y (io)
part G pins: J1 I/O, L71P_Y (io), J2 I/O, L72P (io), J3 I/O, L72N (io), J4 I/O (TRDY) (io), K1 I/O, VREF 6, L71N_Y (io), K2 I/O, L70P_YY (io), K3 I/O, L70N_YY (io), K4 I/O, L68P_YY (io), K5 I/O, L68N_YY (io), L1 I/O, L69P (io), L2 I/O, L69N (io), L3 I/O, L67P_Y (io), L4 I/O, L65P_Y (io), L5 I/O, VREF 6, L65N_Y (io), M1 I/O, L66P (io), M2 I/O, L67N_Y (io), M3 I/O, L64P_YY (io), M4 I/O, L64N_YY (io), N1 I/O, L66N (io), N2 I/O, L63P (io), N3 I/O, L63N (io), P1 I/O, L62P_YY (io), P2 I/O, L62N_YY (io)
part H pins: C1 I/O, L83N (io), C2 I/O, L83P (io), D1 I/O, L82N_YY (io), D2 I/O, L82P_YY (io), D3 I/O (io), E1 I/O, L80N (io), E2 I/O, L80P (io), E3 I/O, VREF 7, L81P_Y (io), E4 I/O, L81N_Y (io), F1 I/O, L78N_YY (io), F2 I/O, L78P_YY (io), F3 I/O, L79N_Y (io), F4 I/O, L79P_Y (io), F5 I/O, L77P (io), G1 I/O, L75N_Y (io), G2 I/O, VREF 7, L75P_Y (io), G3 I/O, L76P_YY (io), G4 I/O, L76N_YY (io), G5 I/O, L77N (io), H1 I/O (IRDY), L73N_YY (io), H2 I/O, L73P_YY (io), H3 I/O, L74N (io), H4 I/O, L74P (io)
part I pins: B8 GCK2, I (in), C8 GCK3, I (in), T8 GCK1, I (in), T9 GCK0, I (in)
part J pins: A2 TCK (in), A15 CCLK (io), B1 TMS (in), B14 TDO (out), B16 DIN (io) "I/O (DIN, D0), L19N_YY", C13 TDI (in), P15 ~{INIT} (io) "I/O (I\N\I\T\), L41N_YY", R1 M1 (in), R3 M2 (in), R16 PROGRAM (in), T2 M0 (in), T15 DONE (io)
part K pins: C3 VCCINT (power), C14 VCCINT (power), D4 VCCINT (power), D13 VCCINT (power), E5 VCCINT (power), E8 VCCO Bank 0 (power), E9 VCCO Bank 1 (power), E12 VCCINT (power), F7 VCCO Bank 0 (power), F8 VCCO Bank 0 (power), F9 VCCO Bank 1 (power), F10 VCCO Bank 1 (power), G6 VCCO Bank 7 (power), G11 VCCO Bank 2 (power), H5 VCCO Bank 7 (power), H6 VCCO Bank 7 (power), H11 VCCO Bank 2 (power), H12 VCCO Bank 2 (power), J5 VCCO Bank 6 (power), J6 VCCO Bank 6 (power), J11 VCCO Bank 3 (power), J12 VCCO Bank 3 (power), K6 VCCO Bank 6 (power), K11 VCCO Bank 3 (power), L7 VCCO Bank 5 (power), L8 VCCO Bank 5 (power), L9 VCCO Bank 4 (power), L10 VCCO Bank 4 (power), M5 VCCINT (power), M8 VCCO Bank 5 (power), M9 VCCO Bank 4 (power), M12 VCCINT (power), N4 VCCINT (power), N13 VCCINT (power), P3 VCCINT (power), P14 VCCINT (power)
part L pins: A1 GND (power), A16 GND (power), B2 GND (power), B15 GND (power), F6 GND (power), F11 GND (power), G7 GND (power), G8 GND (power), G9 GND (power), G10 GND (power), H7 GND (power), H8 GND (power), H9 GND (power), H10 GND (power), J7 GND (power), J8 GND (power), J9 GND (power), J10 GND (power), K7 GND (power), K8 GND (power), K9 GND (power), K10 GND (power), L6 GND (power), L11 GND (power), R2 GND (power), R15 GND (power), T1 GND (power), T16 GND (power)
part A text: BANK 0
part B text: BANK 1
part C text: BANK 2
part D text: BANK 3
part E text: BANK 4
part F text: BANK 5
part G text: BANK 6
part H text: BANK 7

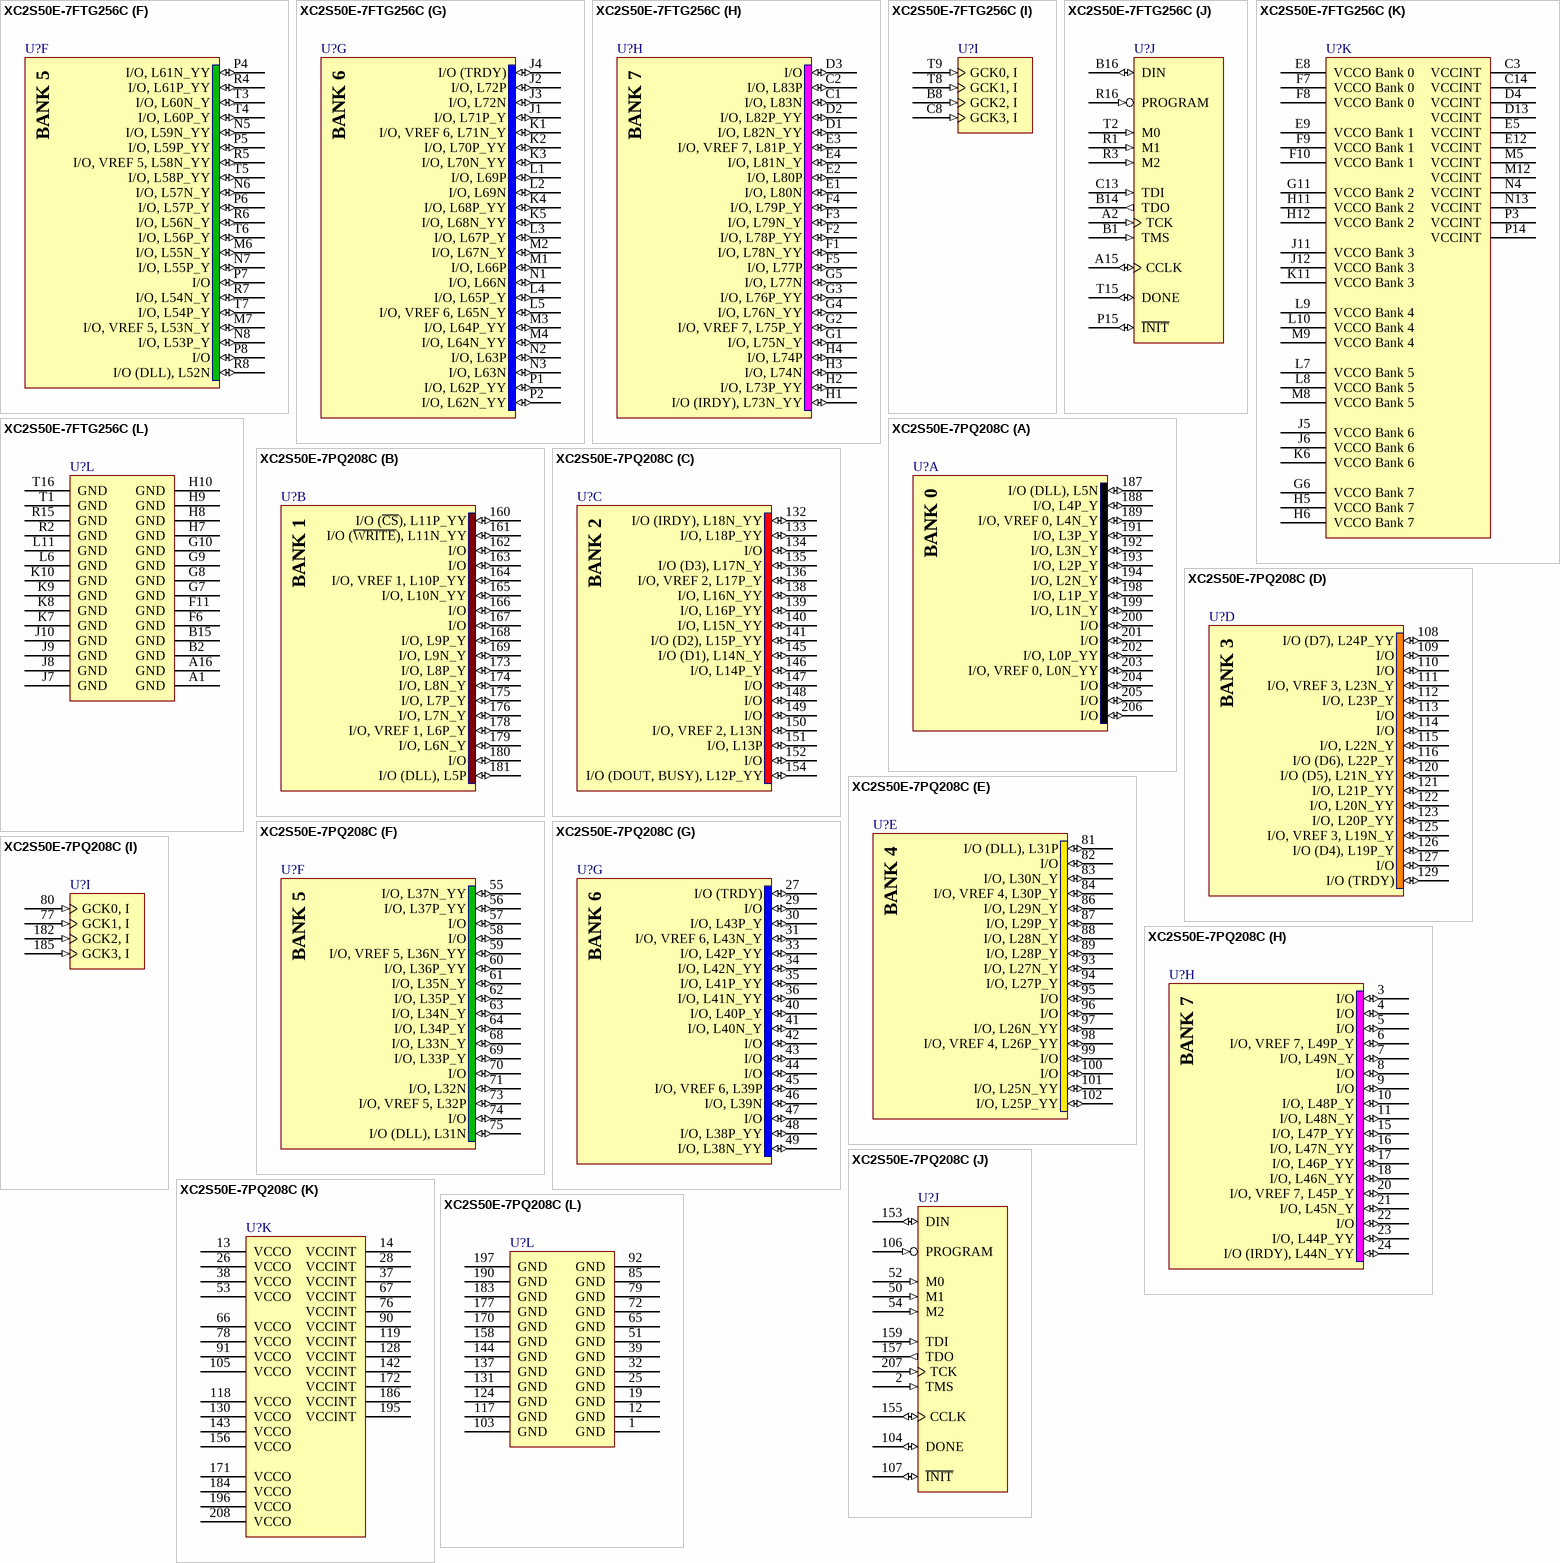
[diagram p15: symbols XC2S50E-7FTG256C to XC2S50E-7PQ208C]

## XC2S50E-7FTG256C
designator U?
Spartan-IIE 1.8V FPGA, 182 User I/Os, 256-Ball FTBGA, Higher Performance, Commercial Grade, Pb-Free; DatasheetVersion: ver2.3, Jun-2008; PackageVersion: ver1.3, Oct-2007; PackageReference: FTG256; PackageDescription: 256-Ball Fine Pitch Thin Ball Grid Array 1.00 mm Pitch (FTG256) - Pb-Free; Code_JEDEC: MS-034-AAF-1*; ComponentLink1Description: Manufacturer URL; ComponentLink1URL: http://www.xilinx.com/; ComponentLink2Description: Spartan-IIE Datasheet; ComponentLink2URL: http://www.xilinx.com/support/documentation/data_sheets/ds077.pdf; ComponentLink3Description: FTG256 Package Drawing; ComponentLink3URL: http://www.xilinx.com/support/documentation/package_specs/ft256.pdf; ComponentLink4Description: Spartan-IIE Documents; ComponentLink4URL: http://www.xilinx.com/support/documentation/spartan-iie.htm
footprint FTG256 (BGA, 256-Leads, Body 17x17mm, Pitch 1mm)
part A pins: A3 I/O, L0N_YY (io), A4 I/O, L0P_YY (io), A5 I/O, L4P_Y (io), A6 I/O (io), A7 I/O (io), B3 I/O (io), B4 I/O, L1P_YY (io), B5 I/O, L4N_Y (io), B6 I/O, L5P_Y (io), B7 I/O, L6N_Y (io), C4 I/O, L1N_YY (io), C5 I/O, VREF 0, L2N_YY (io), C6 I/O, L5N_Y (io), C7 I/O, L6P_Y (io), D5 I/O, L2P_YY (io), D6 I/O, L3P_Y (io), D7 I/O, VREF 0, L7N_Y (io), D8 I/O (DLL), L8N (io), E6 I/O, L3N_Y (io), E7 I/O, L7P_Y (io)
part B pins: A8 I/O (DLL), L8P (io), A9 I/O, L9N_Y (io), A10 I/O, L11N_Y (io), A11 I/O, L13N_Y (io), A12 I/O, L16N_YY (io), A13 I/O (~{WRITE}), L18N_YY (io), A14 I/O (~{CS}), L18P_YY (io), B9 I/O, L9P_Y (io), B10 I/O, L11P_Y (io), B11 I/O, L13P_Y (io), B12 I/O, L16P_YY (io), B13 I/O, L17P_Y (io), C9 I/O, L10N_Y (io), C10 I/O (io), C11 I/O, L14N_Y (io), C12 I/O, L17N_Y (io), D9 I/O, VREF 1, L10P_Y (io), D10 I/O, L12N_Y (io), D11 I/O, L14P_Y (io), D12 I/O, VREF 1, L15P_YY (io), E10 I/O, L12P_Y (io), E11 I/O, L15N_YY (io)
part C pins: C15 I/O (DOUT, BUSY), L19P_YY (io), C16 I/O, VREF 2, L22P_Y (io), D14 I/O, L20P (io), D15 I/O, L22N_Y (io), D16 I/O, L24P_Y (io), E13 I/O, L20N (io), E14 I/O, L23P (io), E15 I/O (D1), L24N_Y (io), E16 I/O, L26P (io), F12 I/O, L21P_Y (io), F13 I/O, L23N (io), F14 I/O (D2), L25P_YY (io), F15 I/O, L26N (io), F16 I/O, VREF 2, L28P_Y (io), G12 I/O, L21N_Y (io), G13 I/O, L25N_YY (io), G14 I/O, L27P_Y (io), G15 I/O (D3), L28N_Y (io), G16 I/O, L30P_YY (io), H13 I/O, L27N_YY (io), H14 I/O, L29N (io), H15 I/O, L29P (io), H16 I/O (IRDY), L30N_YY (io)
part D pins: J13 I/O (TRDY) (io), J14 I/O (D4), L32P_Y (io), J15 I/O, L31N (io), J16 I/O, L31P (io), K12 I/O, L33P_YY (io), K13 I/O, VREF 3, L32N_Y (io), K14 I/O, L35P_YY (io), K15 I/O, L34N (io), K16 I/O, L34P (io), L12 I/O, L33N_YY (io), L13 I/O (D5), L35N_YY (io), L14 I/O (io), L15 I/O, L36N_Y (io), L16 I/O (D6), L36P_Y (io), M13 I/O (io), M14 I/O, L39P_YY (io), M15 I/O, VREF 3, L38N_Y (io), M16 I/O, L38P_Y (io), N14 I/O, L39N_YY (io), N15 I/O, L40N (io), N16 I/O, L40P (io), P16 I/O (D7), L41P_YY (io)
part E pins: M10 I/O, L48P_Y (io), M11 I/O, VREF 4, L45P_YY (io), N9 I/O, L51P_Y (io), N10 I/O, L48N_Y (io), N11 I/O, L45N_YY (io), N12 I/O, L44P_YY (io), P9 I/O, L51N_Y (io), P10 I/O, L49N_Y (io), P11 I/O, L47N_Y (io), P12 I/O, L44N_YY (io), P13 I/O, L43P_Y (io), R9 I/O (DLL), L52P (io), R10 I/O, VREF 4, L50P_Y (io), R11 I/O, L49P_Y (io), R12 I/O, L47P_Y (io), R13 I/O, L43N_Y (io), R14 I/O, L42P_YY (io), T10 I/O, L50N_Y (io), T11 I/O (io), T12 I/O, L46N_Y (io), T13 I/O, L46P_Y (io), T14 I/O, L42N_YY (io)
part F pins: M6 I/O, L55N_Y (io), M7 I/O, VREF 5, L53N_Y (io), N5 I/O, L59N_YY (io), N6 I/O, L57N_Y (io), N7 I/O, L55P_Y (io), N8 I/O, L53P_Y (io), P4 I/O, L61N_YY (io), P5 I/O, L59P_YY (io), P6 I/O, L57P_Y (io), P7 I/O (io), P8 I/O (io), R4 I/O, L61P_YY (io), R5 I/O, VREF 5, L58N_YY (io), R6 I/O, L56N_Y (io), R7 I/O, L54N_Y (io), R8 I/O (DLL), L52N (io), T3 I/O, L60N_Y (io), T4 I/O, L60P_Y (io), T5 I/O, L58P_YY (io), T6 I/O, L56P_Y (io), T7 I/O, L54P_Y (io)
part G pins: J1 I/O, L71P_Y (io), J2 I/O, L72P (io), J3 I/O, L72N (io), J4 I/O (TRDY) (io), K1 I/O, VREF 6, L71N_Y (io), K2 I/O, L70P_YY (io), K3 I/O, L70N_YY (io), K4 I/O, L68P_YY (io), K5 I/O, L68N_YY (io), L1 I/O, L69P (io), L2 I/O, L69N (io), L3 I/O, L67P_Y (io), L4 I/O, L65P_Y (io), L5 I/O, VREF 6, L65N_Y (io), M1 I/O, L66P (io), M2 I/O, L67N_Y (io), M3 I/O, L64P_YY (io), M4 I/O, L64N_YY (io), N1 I/O, L66N (io), N2 I/O, L63P (io), N3 I/O, L63N (io), P1 I/O, L62P_YY (io), P2 I/O, L62N_YY (io)
part H pins: C1 I/O, L83N (io), C2 I/O, L83P (io), D1 I/O, L82N_YY (io), D2 I/O, L82P_YY (io), D3 I/O (io), E1 I/O, L80N (io), E2 I/O, L80P (io), E3 I/O, VREF 7, L81P_Y (io), E4 I/O, L81N_Y (io), F1 I/O, L78N_YY (io), F2 I/O, L78P_YY (io), F3 I/O, L79N_Y (io), F4 I/O, L79P_Y (io), F5 I/O, L77P (io), G1 I/O, L75N_Y (io), G2 I/O, VREF 7, L75P_Y (io), G3 I/O, L76P_YY (io), G4 I/O, L76N_YY (io), G5 I/O, L77N (io), H1 I/O (IRDY), L73N_YY (io), H2 I/O, L73P_YY (io), H3 I/O, L74N (io), H4 I/O, L74P (io)
part I pins: B8 GCK2, I (in), C8 GCK3, I (in), T8 GCK1, I (in), T9 GCK0, I (in)
part J pins: A2 TCK (in), A15 CCLK (io), B1 TMS (in), B14 TDO (out), B16 DIN (io) "I/O (DIN, D0), L19N_YY", C13 TDI (in), P15 ~{INIT} (io) "I/O (I\N\I\T\), L41N_YY", R1 M1 (in), R3 M2 (in), R16 PROGRAM (in), T2 M0 (in), T15 DONE (io)
part K pins: C3 VCCINT (power), C14 VCCINT (power), D4 VCCINT (power), D13 VCCINT (power), E5 VCCINT (power), E8 VCCO Bank 0 (power), E9 VCCO Bank 1 (power), E12 VCCINT (power), F7 VCCO Bank 0 (power), F8 VCCO Bank 0 (power), F9 VCCO Bank 1 (power), F10 VCCO Bank 1 (power), G6 VCCO Bank 7 (power), G11 VCCO Bank 2 (power), H5 VCCO Bank 7 (power), H6 VCCO Bank 7 (power), H11 VCCO Bank 2 (power), H12 VCCO Bank 2 (power), J5 VCCO Bank 6 (power), J6 VCCO Bank 6 (power), J11 VCCO Bank 3 (power), J12 VCCO Bank 3 (power), K6 VCCO Bank 6 (power), K11 VCCO Bank 3 (power), L7 VCCO Bank 5 (power), L8 VCCO Bank 5 (power), L9 VCCO Bank 4 (power), L10 VCCO Bank 4 (power), M5 VCCINT (power), M8 VCCO Bank 5 (power), M9 VCCO Bank 4 (power), M12 VCCINT (power), N4 VCCINT (power), N13 VCCINT (power), P3 VCCINT (power), P14 VCCINT (power)
part L pins: A1 GND (power), A16 GND (power), B2 GND (power), B15 GND (power), F6 GND (power), F11 GND (power), G7 GND (power), G8 GND (power), G9 GND (power), G10 GND (power), H7 GND (power), H8 GND (power), H9 GND (power), H10 GND (power), J7 GND (power), J8 GND (power), J9 GND (power), J10 GND (power), K7 GND (power), K8 GND (power), K9 GND (power), K10 GND (power), L6 GND (power), L11 GND (power), R2 GND (power), R15 GND (power), T1 GND (power), T16 GND (power)
part A text: BANK 0
part B text: BANK 1
part C text: BANK 2
part D text: BANK 3
part E text: BANK 4
part F text: BANK 5
part G text: BANK 6
part H text: BANK 7

## XC2S50E-7PQ208C
designator U?
Spartan-IIE 1.8V FPGA, 146 User I/Os, 208-Pin PQFP, Higher Performance, Commercial Grade; DatasheetVersion: ver2.3, Jun-2008; PackageVersion: ver1.2, Jun-2004; PackageReference: PQ208; PackageDescription: 208-Pin Plastic Quad Flat Pack (PQ208); Code_JEDEC: MS-029-FA-1; ComponentLink1Description: Manufacturer URL; ComponentLink1URL: http://www.xilinx.com/; ComponentLink2Description: Spartan-IIE Datasheet; ComponentLink2URL: http://www.xilinx.com/support/documentation/data_sheets/ds077.pdf; ComponentLink3Description: PQ208 Package Drawing; ComponentLink3URL: http://www.xilinx.com/support/documentation/package_specs/pq208.pdf; ComponentLink4Description: Spartan-IIE Documents; ComponentLink4URL: http://www.xilinx.com/support/documentation/spartan-iie.htm
footprint PQ208_N (Shrink QFP, 208-Leads, Body 28x28mm, Pitch 0.5mm, IPC Medium Density)
footprint PQ208_L (Shrink QFP, 208-Leads, Body 28x28mm, Pitch 0.5mm, IPC High Density)
footprint PQ208_M (Shrink QFP, 208-Leads, Body 28x28mm, Pitch 0.5mm, IPC Low Density)
part A pins: 187 I/O (DLL), L5N (io), 188 I/O, L4P_Y (io), 189 I/O, VREF 0, L4N_Y (io), 191 I/O, L3P_Y (io), 192 I/O, L3N_Y (io), 193 I/O, L2P_Y (io), 194 I/O, L2N_Y (io), 198 I/O, L1P_Y (io), 199 I/O, L1N_Y (io), 200 I/O (io), 201 I/O (io), 202 I/O, L0P_YY (io), 203 I/O, VREF 0, L0N_YY (io), 204 I/O (io), 205 I/O (io), 206 I/O (io)
part B pins: 160 I/O (~{CS}), L11P_YY (io), 161 I/O (~{WRITE}), L11N_YY (io), 162 I/O (io), 163 I/O (io), 164 I/O, VREF 1, L10P_YY (io), 165 I/O, L10N_YY (io), 166 I/O (io), 167 I/O (io), 168 I/O, L9P_Y (io), 169 I/O, L9N_Y (io), 173 I/O, L8P_Y (io), 174 I/O, L8N_Y (io), 175 I/O, L7P_Y (io), 176 I/O, L7N_Y (io), 178 I/O, VREF 1, L6P_Y (io), 179 I/O, L6N_Y (io), 180 I/O (io), 181 I/O (DLL), L5P (io)
part C pins: 132 I/O (IRDY), L18N_YY (io), 133 I/O, L18P_YY (io), 134 I/O (io), 135 I/O (D3), L17N_Y (io), 136 I/O, VREF 2, L17P_Y (io), 138 I/O, L16N_YY (io), 139 I/O, L16P_YY (io), 140 I/O, L15N_YY (io), 141 I/O (D2), L15P_YY (io), 145 I/O (D1), L14N_Y (io), 146 I/O, L14P_Y (io), 147 I/O (io), 148 I/O (io), 149 I/O (io), 150 I/O, VREF 2, L13N (io), 151 I/O, L13P (io), 152 I/O (io), 154 I/O (DOUT, BUSY), L12P_YY (io)
part D pins: 108 I/O (D7), L24P_YY (io), 109 I/O (io), 110 I/O (io), 111 I/O, VREF 3, L23N_Y (io), 112 I/O, L23P_Y (io), 113 I/O (io), 114 I/O (io), 115 I/O, L22N_Y (io), 116 I/O (D6), L22P_Y (io), 120 I/O (D5), L21N_YY (io), 121 I/O, L21P_YY (io), 122 I/O, L20N_YY (io), 123 I/O, L20P_YY (io), 125 I/O, VREF 3, L19N_Y (io), 126 I/O (D4), L19P_Y (io), 127 I/O (io), 129 I/O (TRDY) (io)
part E pins: 81 I/O (DLL), L31P (io), 82 I/O (io), 83 I/O, L30N_Y (io), 84 I/O, VREF 4, L30P_Y (io), 86 I/O, L29N_Y (io), 87 I/O, L29P_Y (io), 88 I/O, L28N_Y (io), 89 I/O, L28P_Y (io), 93 I/O, L27N_Y (io), 94 I/O, L27P_Y (io), 95 I/O (io), 96 I/O (io), 97 I/O, L26N_YY (io), 98 I/O, VREF 4, L26P_YY (io), 99 I/O (io), 100 I/O (io), 101 I/O, L25N_YY (io), 102 I/O, L25P_YY (io)
part F pins: 55 I/O, L37N_YY (io), 56 I/O, L37P_YY (io), 57 I/O (io), 58 I/O (io), 59 I/O, VREF 5, L36N_YY (io), 60 I/O, L36P_YY (io), 61 I/O, L35N_Y (io), 62 I/O, L35P_Y (io), 63 I/O, L34N_Y (io), 64 I/O, L34P_Y (io), 68 I/O, L33N_Y (io), 69 I/O, L33P_Y (io), 70 I/O (io), 71 I/O, L32N (io), 73 I/O, VREF 5, L32P (io), 74 I/O (io), 75 I/O (DLL), L31N (io)
part G pins: 27 I/O (TRDY) (io), 29 I/O (io), 30 I/O, L43P_Y (io), 31 I/O, VREF 6, L43N_Y (io), 33 I/O, L42P_YY (io), 34 I/O, L42N_YY (io), 35 I/O, L41P_YY (io), 36 I/O, L41N_YY (io), 40 I/O, L40P_Y (io), 41 I/O, L40N_Y (io), 42 I/O (io), 43 I/O (io), 44 I/O (io), 45 I/O, VREF 6, L39P (io), 46 I/O, L39N (io), 47 I/O (io), 48 I/O, L38P_YY (io), 49 I/O, L38N_YY (io)
part H pins: 3 I/O (io), 4 I/O (io), 5 I/O (io), 6 I/O, VREF 7, L49P_Y (io), 7 I/O, L49N_Y (io), 8 I/O (io), 9 I/O (io), 10 I/O, L48P_Y (io), 11 I/O, L48N_Y (io), 15 I/O, L47P_YY (io), 16 I/O, L47N_YY (io), 17 I/O, L46P_YY (io), 18 I/O, L46N_YY (io), 20 I/O, VREF 7, L45P_Y (io), 21 I/O, L45N_Y (io), 22 I/O (io), 23 I/O, L44P_YY (io), 24 I/O (IRDY), L44N_YY (io)
part I pins: 77 GCK1, I (in), 80 GCK0, I (in), 182 GCK2, I (in), 185 GCK3, I (in)
part J pins: 2 TMS (in), 50 M1 (in), 52 M0 (in), 54 M2 (in), 104 DONE (io), 106 PROGRAM (in), 107 ~{INIT} (io) "I/O (I\N\I\T\), L24N_YY", 153 DIN (io) "I/O (DIN, D0), L12N_YY", 155 CCLK (io), 157 TDO (out), 159 TDI (in), 207 TCK (in)
part K pins: 13 VCCO (power), 14 VCCINT (power), 26 VCCO (power), 28 VCCINT (power), 37 VCCINT (power), 38 VCCO (power), 53 VCCO (power), 66 VCCO (power), 67 VCCINT (power), 76 VCCINT (power), 78 VCCO (power), 90 VCCINT (power), 91 VCCO (power), 105 VCCO (power), 118 VCCO (power), 119 VCCINT (power), 128 VCCINT (power), 130 VCCO (power), 142 VCCINT (power), 143 VCCO (power), 156 VCCO (power), 171 VCCO (power), 172 VCCINT (power), 184 VCCO (power), 186 VCCINT (power), 195 VCCINT (power), 196 VCCO (power), 208 VCCO (power)
part L pins: 1 GND (power), 12 GND (power), 19 GND (power), 25 GND (power), 32 GND (power), 39 GND (power), 51 GND (power), 65 GND (power), 72 GND (power), 79 GND (power), 85 GND (power), 92 GND (power), 103 GND (power), 117 GND (power), 124 GND (power), 131 GND (power), 137 GND (power), 144 GND (power), 158 GND (power), 170 GND (power), 177 GND (power), 183 GND (power), 190 GND (power), 197 GND (power)
part A text: BANK 0
part B text: BANK 1
part C text: BANK 2
part D text: BANK 3
part E text: BANK 4
part F text: BANK 5
part G text: BANK 6
part H text: BANK 7

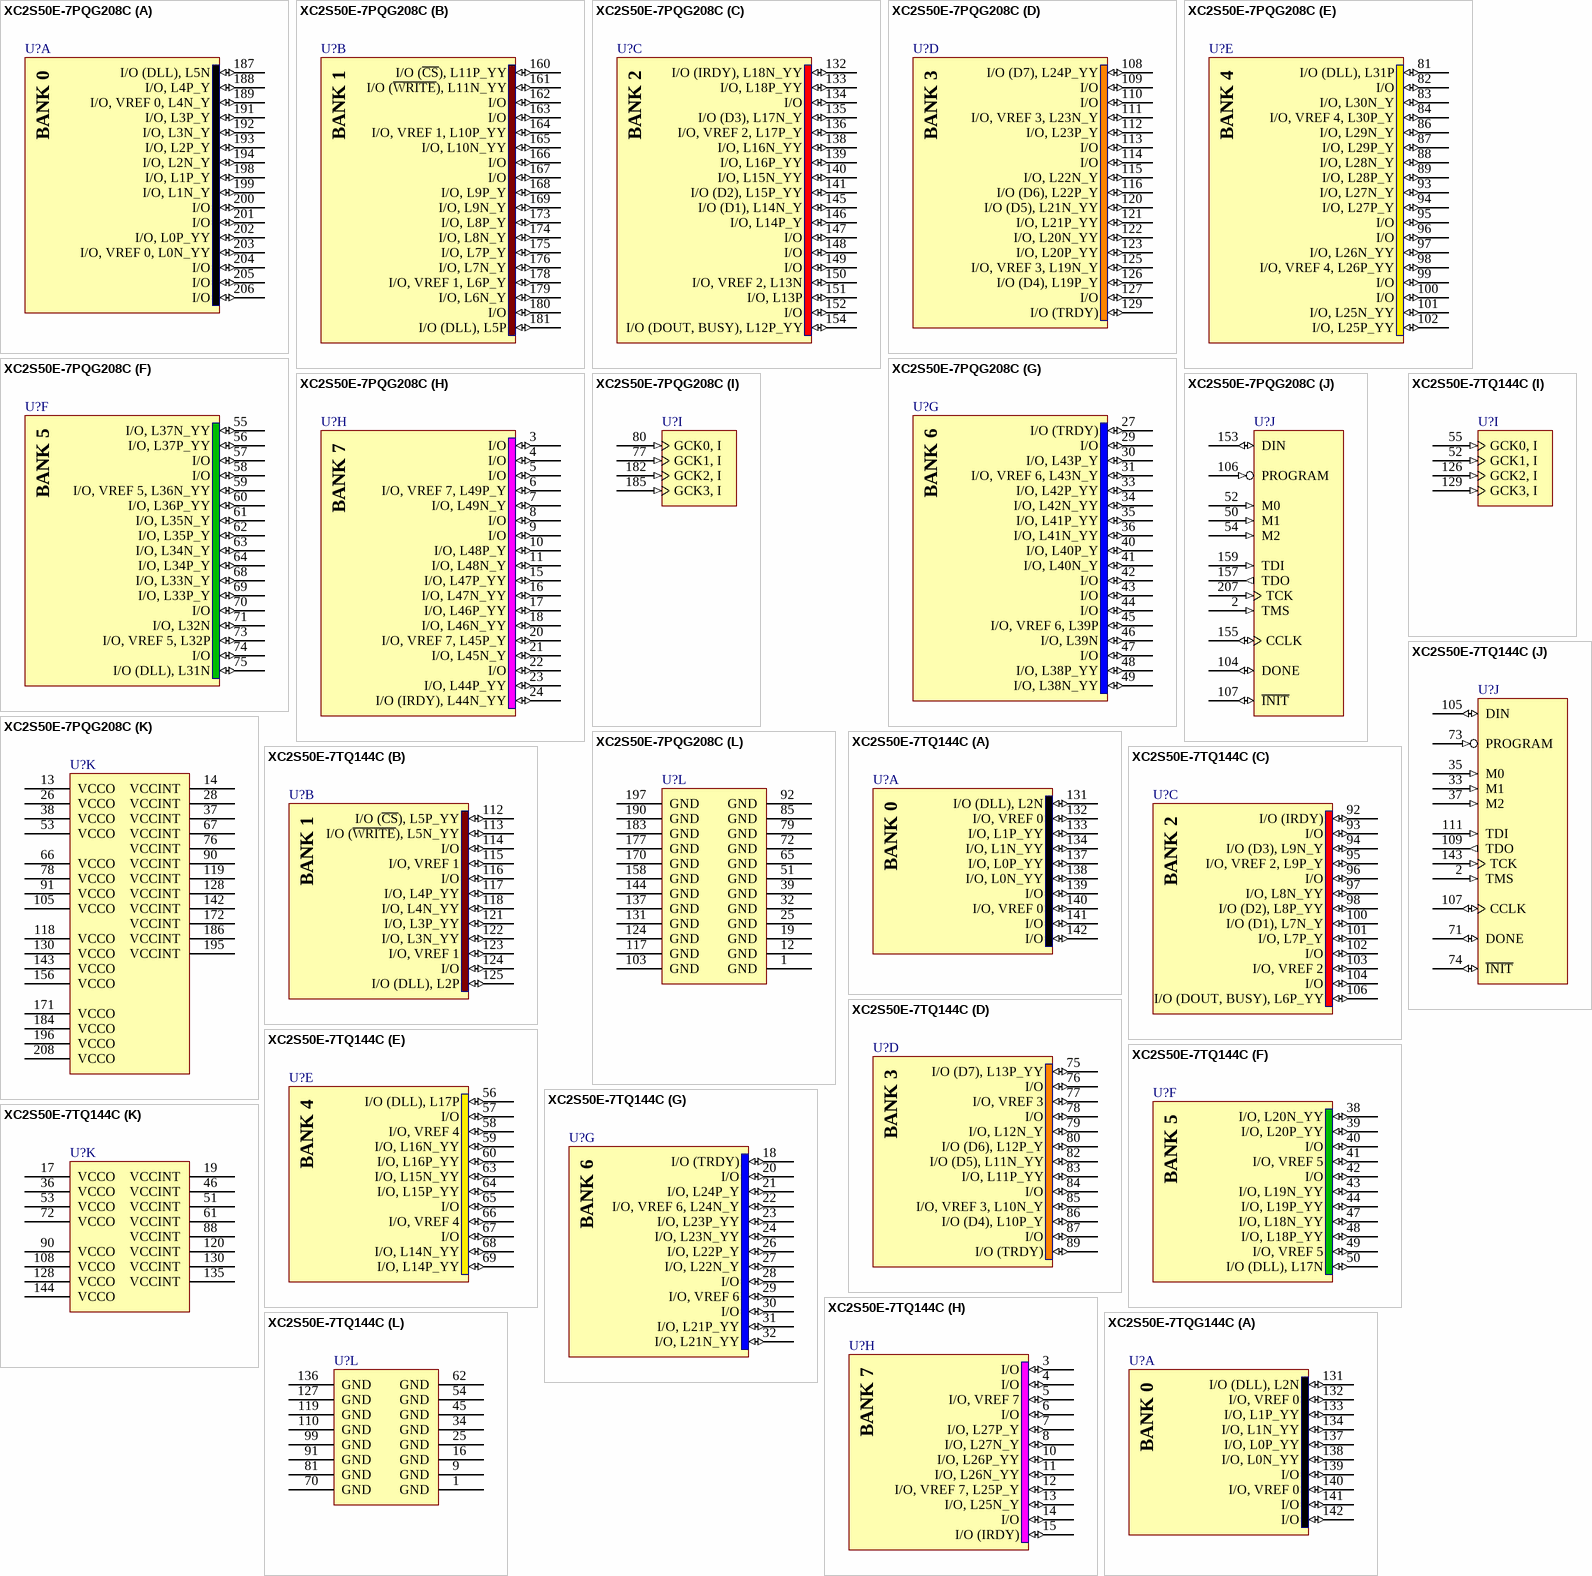
[diagram p16: symbols XC2S50E-7PQG208C to XC2S50E-7TQG144C]

## XC2S50E-7PQG208C
designator U?
Spartan-IIE 1.8V FPGA, 146 User I/Os, 208-Pin PQFP, Higher Performance, Commercial Grade, Pb-Free; DatasheetVersion: ver2.3, Jun-2008; PackageVersion: ver1.2, Jun-2004; PackageReference: PQG208; PackageDescription: 208-Pin Plastic Quad Flat Pack (PQG208) - Pb-Free; Code_JEDEC: MS-029-FA-1; ComponentLink1Description: Manufacturer URL; ComponentLink1URL: http://www.xilinx.com/; ComponentLink2Description: Spartan-IIE Datasheet; ComponentLink2URL: http://www.xilinx.com/support/documentation/data_sheets/ds077.pdf; ComponentLink3Description: PQG208 Package Drawing; ComponentLink3URL: http://www.xilinx.com/support/documentation/package_specs/pq208.pdf; ComponentLink4Description: Spartan-IIE Documents; ComponentLink4URL: http://www.xilinx.com/support/documentation/spartan-iie.htm
footprint PQG208_N (Shrink QFP, 208-Leads, Body 28x28mm, Pitch 0.5mm, IPC Medium Density)
footprint PQG208_L (Shrink QFP, 208-Leads, Body 28x28mm, Pitch 0.5mm, IPC High Density)
footprint PQG208_M (Shrink QFP, 208-Leads, Body 28x28mm, Pitch 0.5mm, IPC Low Density)
part A pins: 187 I/O (DLL), L5N (io), 188 I/O, L4P_Y (io), 189 I/O, VREF 0, L4N_Y (io), 191 I/O, L3P_Y (io), 192 I/O, L3N_Y (io), 193 I/O, L2P_Y (io), 194 I/O, L2N_Y (io), 198 I/O, L1P_Y (io), 199 I/O, L1N_Y (io), 200 I/O (io), 201 I/O (io), 202 I/O, L0P_YY (io), 203 I/O, VREF 0, L0N_YY (io), 204 I/O (io), 205 I/O (io), 206 I/O (io)
part B pins: 160 I/O (~{CS}), L11P_YY (io), 161 I/O (~{WRITE}), L11N_YY (io), 162 I/O (io), 163 I/O (io), 164 I/O, VREF 1, L10P_YY (io), 165 I/O, L10N_YY (io), 166 I/O (io), 167 I/O (io), 168 I/O, L9P_Y (io), 169 I/O, L9N_Y (io), 173 I/O, L8P_Y (io), 174 I/O, L8N_Y (io), 175 I/O, L7P_Y (io), 176 I/O, L7N_Y (io), 178 I/O, VREF 1, L6P_Y (io), 179 I/O, L6N_Y (io), 180 I/O (io), 181 I/O (DLL), L5P (io)
part C pins: 132 I/O (IRDY), L18N_YY (io), 133 I/O, L18P_YY (io), 134 I/O (io), 135 I/O (D3), L17N_Y (io), 136 I/O, VREF 2, L17P_Y (io), 138 I/O, L16N_YY (io), 139 I/O, L16P_YY (io), 140 I/O, L15N_YY (io), 141 I/O (D2), L15P_YY (io), 145 I/O (D1), L14N_Y (io), 146 I/O, L14P_Y (io), 147 I/O (io), 148 I/O (io), 149 I/O (io), 150 I/O, VREF 2, L13N (io), 151 I/O, L13P (io), 152 I/O (io), 154 I/O (DOUT, BUSY), L12P_YY (io)
part D pins: 108 I/O (D7), L24P_YY (io), 109 I/O (io), 110 I/O (io), 111 I/O, VREF 3, L23N_Y (io), 112 I/O, L23P_Y (io), 113 I/O (io), 114 I/O (io), 115 I/O, L22N_Y (io), 116 I/O (D6), L22P_Y (io), 120 I/O (D5), L21N_YY (io), 121 I/O, L21P_YY (io), 122 I/O, L20N_YY (io), 123 I/O, L20P_YY (io), 125 I/O, VREF 3, L19N_Y (io), 126 I/O (D4), L19P_Y (io), 127 I/O (io), 129 I/O (TRDY) (io)
part E pins: 81 I/O (DLL), L31P (io), 82 I/O (io), 83 I/O, L30N_Y (io), 84 I/O, VREF 4, L30P_Y (io), 86 I/O, L29N_Y (io), 87 I/O, L29P_Y (io), 88 I/O, L28N_Y (io), 89 I/O, L28P_Y (io), 93 I/O, L27N_Y (io), 94 I/O, L27P_Y (io), 95 I/O (io), 96 I/O (io), 97 I/O, L26N_YY (io), 98 I/O, VREF 4, L26P_YY (io), 99 I/O (io), 100 I/O (io), 101 I/O, L25N_YY (io), 102 I/O, L25P_YY (io)
part F pins: 55 I/O, L37N_YY (io), 56 I/O, L37P_YY (io), 57 I/O (io), 58 I/O (io), 59 I/O, VREF 5, L36N_YY (io), 60 I/O, L36P_YY (io), 61 I/O, L35N_Y (io), 62 I/O, L35P_Y (io), 63 I/O, L34N_Y (io), 64 I/O, L34P_Y (io), 68 I/O, L33N_Y (io), 69 I/O, L33P_Y (io), 70 I/O (io), 71 I/O, L32N (io), 73 I/O, VREF 5, L32P (io), 74 I/O (io), 75 I/O (DLL), L31N (io)
part G pins: 27 I/O (TRDY) (io), 29 I/O (io), 30 I/O, L43P_Y (io), 31 I/O, VREF 6, L43N_Y (io), 33 I/O, L42P_YY (io), 34 I/O, L42N_YY (io), 35 I/O, L41P_YY (io), 36 I/O, L41N_YY (io), 40 I/O, L40P_Y (io), 41 I/O, L40N_Y (io), 42 I/O (io), 43 I/O (io), 44 I/O (io), 45 I/O, VREF 6, L39P (io), 46 I/O, L39N (io), 47 I/O (io), 48 I/O, L38P_YY (io), 49 I/O, L38N_YY (io)
part H pins: 3 I/O (io), 4 I/O (io), 5 I/O (io), 6 I/O, VREF 7, L49P_Y (io), 7 I/O, L49N_Y (io), 8 I/O (io), 9 I/O (io), 10 I/O, L48P_Y (io), 11 I/O, L48N_Y (io), 15 I/O, L47P_YY (io), 16 I/O, L47N_YY (io), 17 I/O, L46P_YY (io), 18 I/O, L46N_YY (io), 20 I/O, VREF 7, L45P_Y (io), 21 I/O, L45N_Y (io), 22 I/O (io), 23 I/O, L44P_YY (io), 24 I/O (IRDY), L44N_YY (io)
part I pins: 77 GCK1, I (in), 80 GCK0, I (in), 182 GCK2, I (in), 185 GCK3, I (in)
part J pins: 2 TMS (in), 50 M1 (in), 52 M0 (in), 54 M2 (in), 104 DONE (io), 106 PROGRAM (in), 107 ~{INIT} (io) "I/O (I\N\I\T\), L24N_YY", 153 DIN (io) "I/O (DIN, D0), L12N_YY", 155 CCLK (io), 157 TDO (out), 159 TDI (in), 207 TCK (in)
part K pins: 13 VCCO (power), 14 VCCINT (power), 26 VCCO (power), 28 VCCINT (power), 37 VCCINT (power), 38 VCCO (power), 53 VCCO (power), 66 VCCO (power), 67 VCCINT (power), 76 VCCINT (power), 78 VCCO (power), 90 VCCINT (power), 91 VCCO (power), 105 VCCO (power), 118 VCCO (power), 119 VCCINT (power), 128 VCCINT (power), 130 VCCO (power), 142 VCCINT (power), 143 VCCO (power), 156 VCCO (power), 171 VCCO (power), 172 VCCINT (power), 184 VCCO (power), 186 VCCINT (power), 195 VCCINT (power), 196 VCCO (power), 208 VCCO (power)
part L pins: 1 GND (power), 12 GND (power), 19 GND (power), 25 GND (power), 32 GND (power), 39 GND (power), 51 GND (power), 65 GND (power), 72 GND (power), 79 GND (power), 85 GND (power), 92 GND (power), 103 GND (power), 117 GND (power), 124 GND (power), 131 GND (power), 137 GND (power), 144 GND (power), 158 GND (power), 170 GND (power), 177 GND (power), 183 GND (power), 190 GND (power), 197 GND (power)
part A text: BANK 0
part B text: BANK 1
part C text: BANK 2
part D text: BANK 3
part E text: BANK 4
part F text: BANK 5
part G text: BANK 6
part H text: BANK 7

## XC2S50E-7TQ144C
designator U?
Spartan-IIE 1.8V FPGA, 102 User I/Os, 144-Pin TQFP, Higher Performance, Commercial Grade; DatasheetVersion: ver2.3, Jun-2008; PackageVersion: ver1.2, Jun-2004; PackageReference: TQ144; PackageDescription: 144-Pin Thin Quad Flat Pack (TQ144); Code_JEDEC: MS-026-BFB; ComponentLink1Description: Manufacturer URL; ComponentLink1URL: http://www.xilinx.com/; ComponentLink2Description: Spartan-IIE Datasheet; ComponentLink2URL: http://www.xilinx.com/support/documentation/data_sheets/ds077.pdf; ComponentLink3Description: TQ144 Package Drawing; ComponentLink3URL: http://www.xilinx.com/support/documentation/package_specs/tq144.pdf; ComponentLink4Description: Spartan-IIE Documents; ComponentLink4URL: http://www.xilinx.com/support/documentation/spartan-iie.htm
footprint TQ144_N (Thin QFP, 144-Leads, Body 20x20mm, Pitch 0.5mm, IPC Medium Density)
footprint TQ144_L (Thin QFP, 144-Leads, Body 20x20mm, Pitch 0.5mm, IPC High Density)
footprint TQ144_M (Thin QFP, 144-Leads, Body 20x20mm, Pitch 0.5mm, IPC Low Density)
part A pins: 131 I/O (DLL), L2N (io), 132 I/O, VREF 0 (io), 133 I/O, L1P_YY (io), 134 I/O, L1N_YY (io), 137 I/O, L0P_YY (io), 138 I/O, L0N_YY (io), 139 I/O (io), 140 I/O, VREF 0 (io), 141 I/O (io), 142 I/O (io)
part B pins: 112 I/O (~{CS}), L5P_YY (io), 113 I/O (~{WRITE}), L5N_YY (io), 114 I/O (io), 115 I/O, VREF 1 (io), 116 I/O (io), 117 I/O, L4P_YY (io), 118 I/O, L4N_YY (io), 121 I/O, L3P_YY (io), 122 I/O, L3N_YY (io), 123 I/O, VREF 1 (io), 124 I/O (io), 125 I/O (DLL), L2P (io)
part C pins: 92 I/O (IRDY) (io), 93 I/O (io), 94 I/O (D3), L9N_Y (io), 95 I/O, VREF 2, L9P_Y (io), 96 I/O (io), 97 I/O, L8N_YY (io), 98 I/O (D2), L8P_YY (io), 100 I/O (D1), L7N_Y (io), 101 I/O, L7P_Y (io), 102 I/O (io), 103 I/O, VREF 2 (io), 104 I/O (io), 106 I/O (DOUT, BUSY), L6P_YY (io)
part D pins: 75 I/O (D7), L13P_YY (io), 76 I/O (io), 77 I/O, VREF 3 (io), 78 I/O (io), 79 I/O, L12N_Y (io), 80 I/O (D6), L12P_Y (io), 82 I/O (D5), L11N_YY (io), 83 I/O, L11P_YY (io), 84 I/O (io), 85 I/O, VREF 3, L10N_Y (io), 86 I/O (D4), L10P_Y (io), 87 I/O (io), 89 I/O (TRDY) (io)
part E pins: 56 I/O (DLL), L17P (io), 57 I/O (io), 58 I/O, VREF 4 (io), 59 I/O, L16N_YY (io), 60 I/O, L16P_YY (io), 63 I/O, L15N_YY (io), 64 I/O, L15P_YY (io), 65 I/O (io), 66 I/O, VREF 4 (io), 67 I/O (io), 68 I/O, L14N_YY (io), 69 I/O, L14P_YY (io)
part F pins: 38 I/O, L20N_YY (io), 39 I/O, L20P_YY (io), 40 I/O (io), 41 I/O, VREF 5 (io), 42 I/O (io), 43 I/O, L19N_YY (io), 44 I/O, L19P_YY (io), 47 I/O, L18N_YY (io), 48 I/O, L18P_YY (io), 49 I/O, VREF 5 (io), 50 I/O (DLL), L17N (io)
part G pins: 18 I/O (TRDY) (io), 20 I/O (io), 21 I/O, L24P_Y (io), 22 I/O, VREF 6, L24N_Y (io), 23 I/O, L23P_YY (io), 24 I/O, L23N_YY (io), 26 I/O, L22P_Y (io), 27 I/O, L22N_Y (io), 28 I/O (io), 29 I/O, VREF 6 (io), 30 I/O (io), 31 I/O, L21P_YY (io), 32 I/O, L21N_YY (io)
part H pins: 3 I/O (io), 4 I/O (io), 5 I/O, VREF 7 (io), 6 I/O (io), 7 I/O, L27P_Y (io), 8 I/O, L27N_Y (io), 10 I/O, L26P_YY (io), 11 I/O, L26N_YY (io), 12 I/O, VREF 7, L25P_Y (io), 13 I/O, L25N_Y (io), 14 I/O (io), 15 I/O (IRDY) (io)
part I pins: 52 GCK1, I (in), 55 GCK0, I (in), 126 GCK2, I (in), 129 GCK3, I (in)
part J pins: 2 TMS (in), 33 M1 (in), 35 M0 (in), 37 M2 (in), 71 DONE (io), 73 PROGRAM (in), 74 ~{INIT} (io) "I/O (I\N\I\T\), L13N_YY", 105 DIN (io) "I/O (DIN, D0), L6N_YY", 107 CCLK (io), 109 TDO (out), 111 TDI (in), 143 TCK (in)
part K pins: 17 VCCO (power), 19 VCCINT (power), 36 VCCO (power), 46 VCCINT (power), 51 VCCINT (power), 53 VCCO (power), 61 VCCINT (power), 72 VCCO (power), 88 VCCINT (power), 90 VCCO (power), 108 VCCO (power), 120 VCCINT (power), 128 VCCO (power), 130 VCCINT (power), 135 VCCINT (power), 144 VCCO (power)
part L pins: 1 GND (power), 9 GND (power), 16 GND (power), 25 GND (power), 34 GND (power), 45 GND (power), 54 GND (power), 62 GND (power), 70 GND (power), 81 GND (power), 91 GND (power), 99 GND (power), 110 GND (power), 119 GND (power), 127 GND (power), 136 GND (power)
part A text: BANK 0
part B text: BANK 1
part C text: BANK 2
part D text: BANK 3
part E text: BANK 4
part F text: BANK 5
part G text: BANK 6
part H text: BANK 7

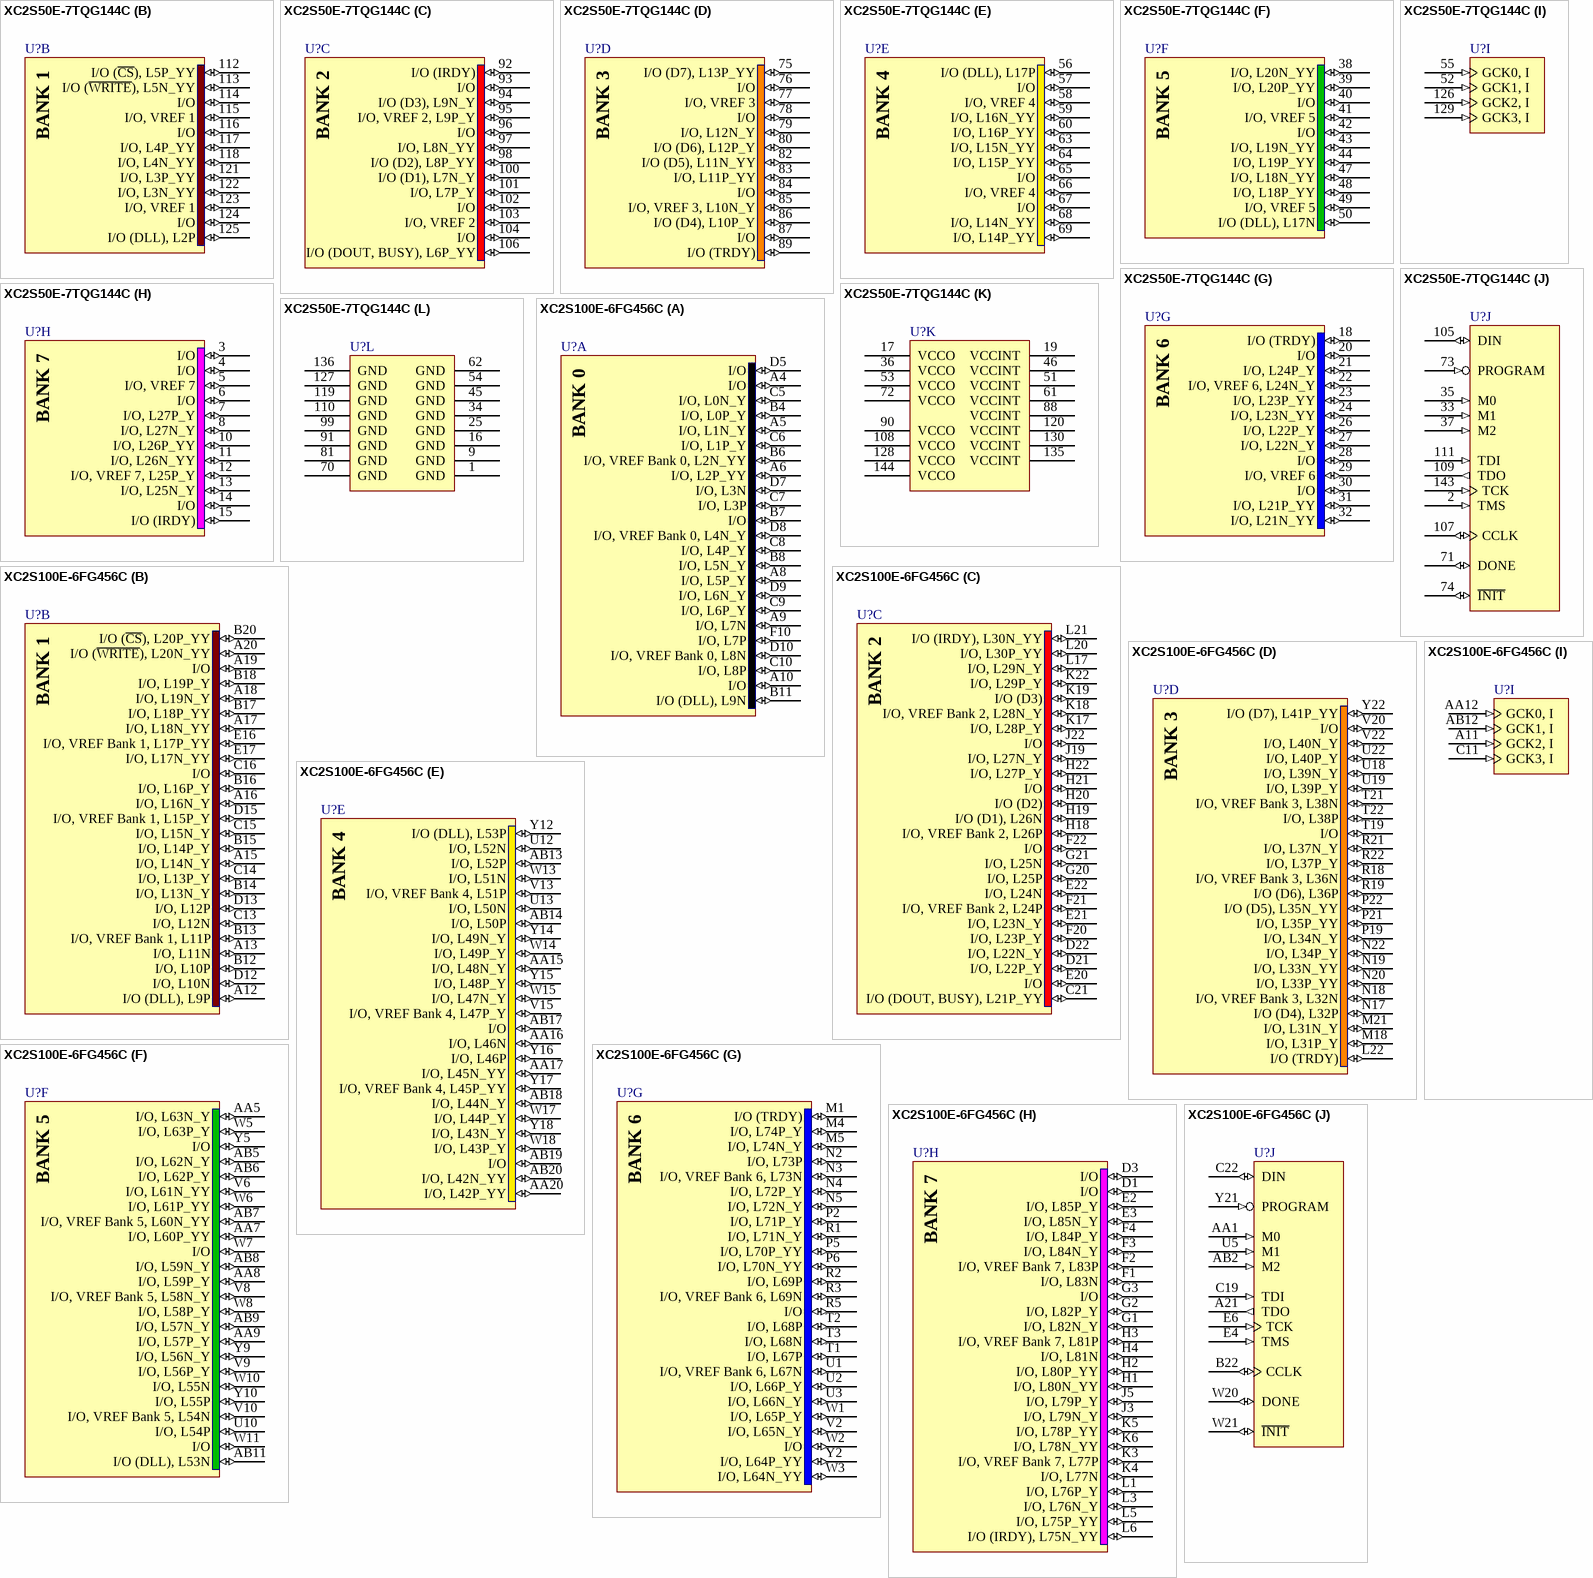
[diagram p17: symbols XC2S50E-7TQG144C to XC2S100E-6FG456C]